# Altium integrated library adafruit.IntLib: 655 symbols (part 1 of 4)
Pins are listed as number, name and electrical type; pins without a type are passive.

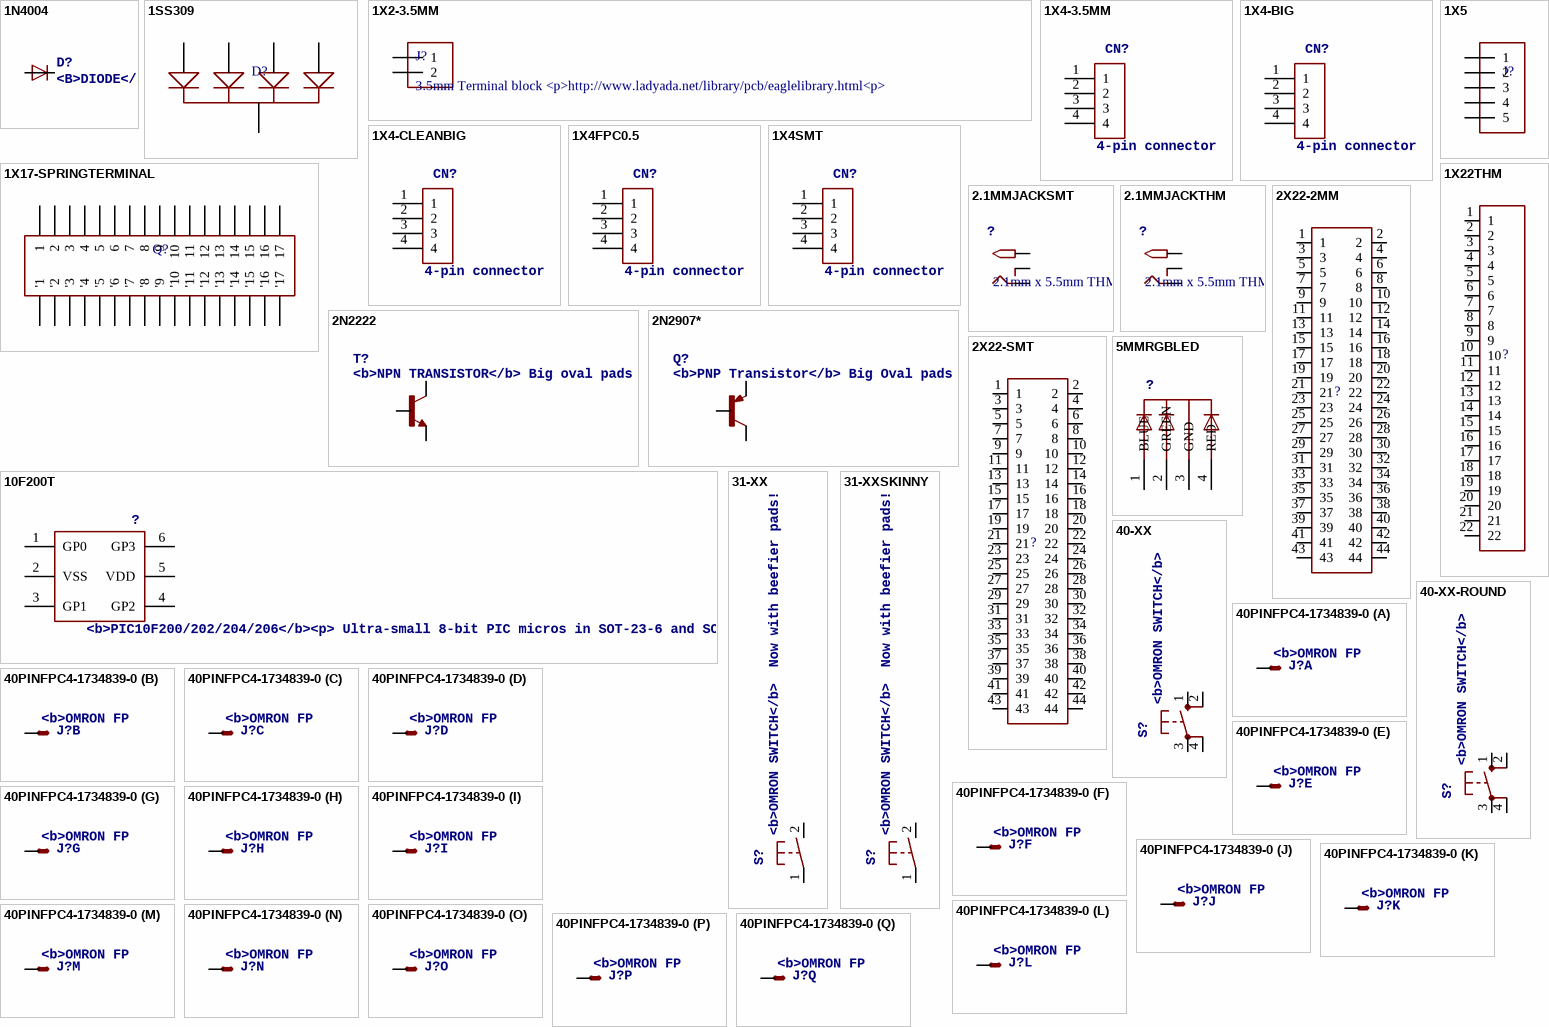
[diagram p0: symbols 1N4004 to 40PINFPC4-1734839-0]

## 1N4004
designator D?, comment <B>DIODE</B><p> / General purpose 1N400x type rectifier / <p>(With bigger pads)</p> / <p>http://www.ladyada.net/library/pcb/eaglelibrary.html<p>
footprint DO41-10
pins: A, C

## 1SS309
designator D?
footprint SOT23-5L
pins: 1 A1, 2 C, 3 A2, 4 A3, 5 A4

## 1X2-3.5MM
designator J?, comment 3.5mm Terminal block / <p>http://www.ladyada.net/library/pcb/eaglelibrary.html<p>
footprint 1X2-3.5MM
pins: 1, 2

## 1X4-3.5MM
designator CN?, comment 4-pin connector
footprint 1X04-3.5MM
pins: 1, 2, 3, 4

## 1X4-BIG
designator CN?, comment 4-pin connector
footprint 1X04-BIG
pins: 1, 2, 3, 4

## 1X4-CLEANBIG
designator CN?, comment 4-pin connector
footprint 1X04-CLEANBIG
pins: 1, 2, 3, 4

## 1X4FPC0.5
designator CN?, comment 4-pin connector
footprint FPC_0.5MM-4
pins: 1, 2, 3, 4

## 1X4SMT
designator CN?, comment 4-pin connector
footprint 1X4-SMT
pins: 1, 2, 3, 4

## 1X5
designator J?
footprint 1X05-3.5MM
pins: 1, 2, 3, 4, 5

## 1X17-SPRINGTERMINAL
designator Q?
footprint SPRINGTERMINAL-17
pins: 1, 1' '1, 2, 2' '2, 3, 3' '3, 4, 4' '4, 5, 5' '5, 6, 6' '6, 7, 7' '7, 8, 8' '8, 9, 9' '9, 10, 10' '10, 11, 11' '11, 12, 12' '12, 13, 13' '13, 14, 14' '14, 15, 15' '15, 16, 16' '16, 17, 17' '17

## 1X22THM
designator ?
footprint 1X22
pins: 1, 2, 3, 4, 5, 6, 7, 8, 9, 10, 11, 12, 13, 14, 15, 16, 17, 18, 19, 20, 21, 22

## 2.1MMJACKSMT
designator ?, comment 2.1mm x 5.5mm THM DC jack with internal switch. Digikey part #PJ-102A, 4UCON part #05537 <br> / 2.1mm x 5.5mm SMT DC jack with internal switch. Digikey part #PJ-002A-SMT, 4UCON part #03267 / <p>By microbuilder.eu & adafruit.com</p>
footprint DCJACK_2MM_SMT
pins: GND RING, GNDBREAK RING_SW, PWR2 TIP

## 2.1MMJACKTHM
designator ?, comment 2.1mm x 5.5mm THM DC jack with internal switch. Digikey part #PJ-102A, 4UCON part #05537 <br> / 2.1mm x 5.5mm SMT DC jack with internal switch. Digikey part #PJ-002A-SMT, 4UCON part #03267 / <p>By microbuilder.eu & adafruit.com</p>
footprint PJ-102A
pins: RING, RING_SW, TIP

## 2N2222
designator T?, comment <b>NPN TRANSISTOR</b> / Big oval pads
footprint TO92-EBC-OVAL
pins: B, C, E

## 2N2907*
designator Q?, comment <b>PNP Transistor</b> / Big Oval pads
footprint TO92-EBC-OVAL
pins: B, C, E

## 2X22-2MM
designator ?
footprint 2X22
pins: 1, 2, 3, 4, 5, 6, 7, 8, 9, 10, 11, 12, 13, 14, 15, 16, 17, 18, 19, 20, 21, 22, 23, 24, 25, 26, 27, 28, 29, 30, 31, 32, 33, 34, 35, 36, 37, 38, 39, 40, 41, 42, 43, 44

## 2X22-SMT
designator ?
footprint 2X22-SMT
pins: 1, 2, 3, 4, 5, 6, 7, 8, 9, 10, 11, 12, 13, 14, 15, 16, 17, 18, 19, 20, 21, 22, 23, 24, 25, 26, 27, 28, 29, 30, 31, 32, 33, 34, 35, 36, 37, 38, 39, 40, 41, 42, 43, 44

## 5MMRGBLED
designator ?
footprint LED5MMRGB
pins: 1 BLUE, 2 GREEN, 3 GND, 4 RED

## 10F200T
designator ?, comment <b>PIC10F200/202/204/206</b><p> / Ultra-small 8-bit PIC micros in SOT-23-6 and SOIC
footprint SOT23-6
pins: 1 GP0, 2 VSS (power), 3 GP1, 4 GP2, 5 VDD (power), 6 GP3

## 31-XX
designator S?, comment <b>OMRON SWITCH</b> / Now with beefier pads!
footprint B3F-31XX
pins: 1 P, 2 S

## 31-XXSKINNY
designator S?, comment <b>OMRON SWITCH</b> / Now with beefier pads!
footprint B3F-31XX-SKINNIER
pins: 1 P, 2 S

## 40-XX
designator S?, comment <b>OMRON SWITCH</b>
MPN: B3F-4000; MF: OMRON COMPONENTS USA; OC_FARNELL: 176434; OC_NEWARK: 36K3105
footprint B3F-40XX
pins: 1 S, 2 S1, 3 P, 4 P1

## 40-XX-ROUND
designator S?, comment <b>OMRON SWITCH</b>
footprint B3F-40XX-ROUND
pins: 1 S, 2 S1, 3 P, 4 P1

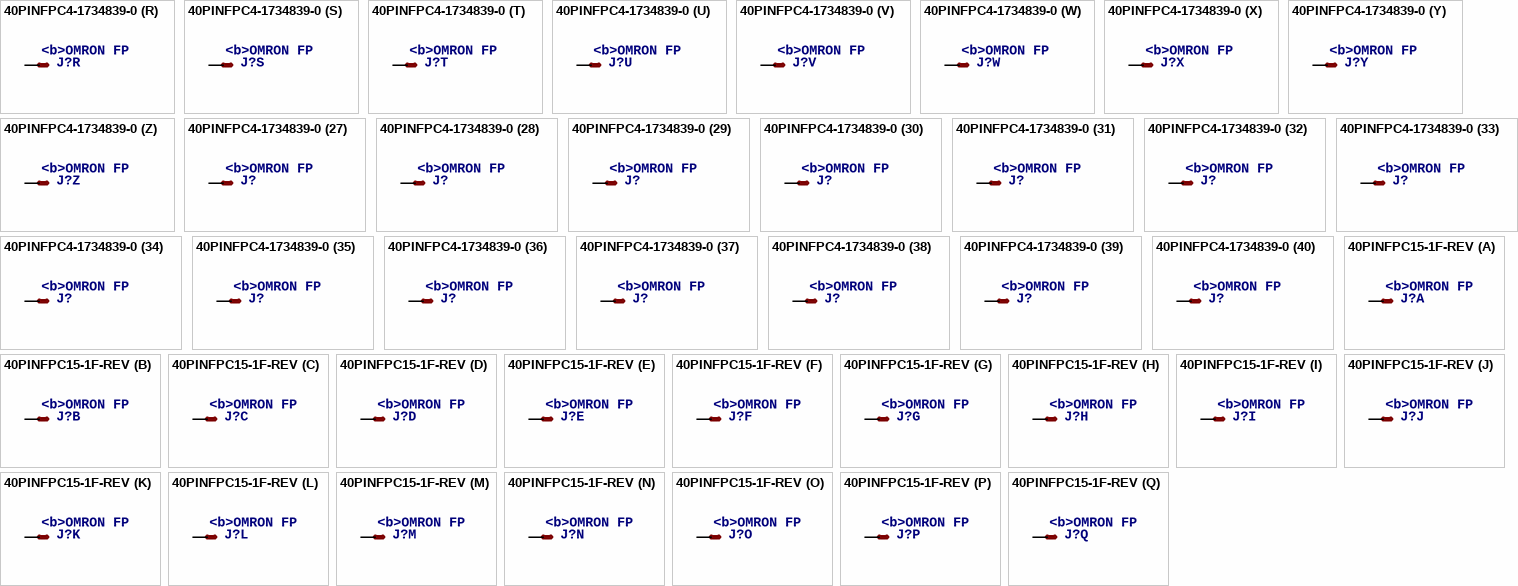
[diagram p1: symbols 40PINFPC4-1734839-0 to 40PINFPC15-1F-REV]

## 40PINFPC4-1734839-0
designator J?, comment <b>OMRON FPC Connector</b><p> / Source : http://www.omron.com/ecb/products/pdf/fpc.pdf / <p> / XF2M-4015-rev is good for connecting up 'PSP' SHARP LQ043 LCDs
footprint 4-1734839-0
part A pins: 1 MSV
part B pins: 2 MS
part C pins: 3 MS
part D pins: 4 MS
part E pins: 5 MS
part F pins: 6 MS
part G pins: 7 MS
part H pins: 8 MS
part I pins: 9 MS
part J pins: 10 MS
part K pins: 11 MS
part L pins: 12 MS
part M pins: 13 MS
part N pins: 14 MS
part O pins: 15 MS
part P pins: 16 MS
part Q pins: 17 MS
part R pins: 18 MS
part S pins: 19 MS
part T pins: 20 MS
part U pins: 21 MS
part V pins: 22 MS
part W pins: 23 MS
part X pins: 24 MS
part Y pins: 25 MS
part Z pins: 26 MS
part 27 pins: 27 MS
part 28 pins: 28 MS
part 29 pins: 29 MS
part 30 pins: 30 MS
part 31 pins: 31 MS
part 32 pins: 32 MS
part 33 pins: 33 MS
part 34 pins: 34 MS
part 35 pins: 35 MS
part 36 pins: 36 MS
part 37 pins: 37 MS
part 38 pins: 38 MS
part 39 pins: 39 MS
part 40 pins: 40 MS

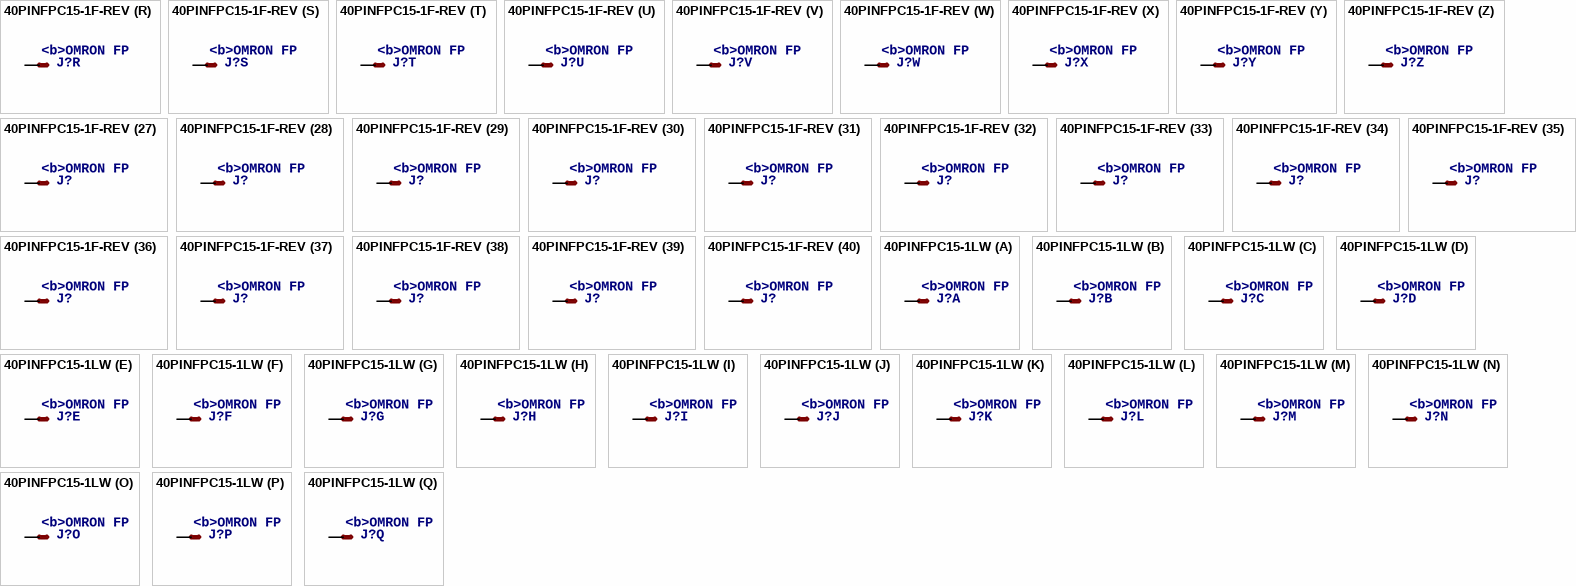
[diagram p2: symbols 40PINFPC15-1F-REV to 40PINFPC15-1LW]

## 40PINFPC15-1F-REV
designator J?, comment <b>OMRON FPC Connector</b><p> / Source : http://www.omron.com/ecb/products/pdf/fpc.pdf / <p> / XF2M-4015-rev is good for connecting up 'PSP' SHARP LQ043 LCDs
footprint XF2M-4015-1F-REVERSE
part A pins: 1 MSV
part B pins: 2 MS
part C pins: 3 MS
part D pins: 4 MS
part E pins: 5 MS
part F pins: 6 MS
part G pins: 7 MS
part H pins: 8 MS
part I pins: 9 MS
part J pins: 10 MS
part K pins: 11 MS
part L pins: 12 MS
part M pins: 13 MS
part N pins: 14 MS
part O pins: 15 MS
part P pins: 16 MS
part Q pins: 17 MS
part R pins: 18 MS
part S pins: 19 MS
part T pins: 20 MS
part U pins: 21 MS
part V pins: 22 MS
part W pins: 23 MS
part X pins: 24 MS
part Y pins: 25 MS
part Z pins: 26 MS
part 27 pins: 27 MS
part 28 pins: 28 MS
part 29 pins: 29 MS
part 30 pins: 30 MS
part 31 pins: 31 MS
part 32 pins: 32 MS
part 33 pins: 33 MS
part 34 pins: 34 MS
part 35 pins: 35 MS
part 36 pins: 36 MS
part 37 pins: 37 MS
part 38 pins: 38 MS
part 39 pins: 39 MS
part 40 pins: 40 MS

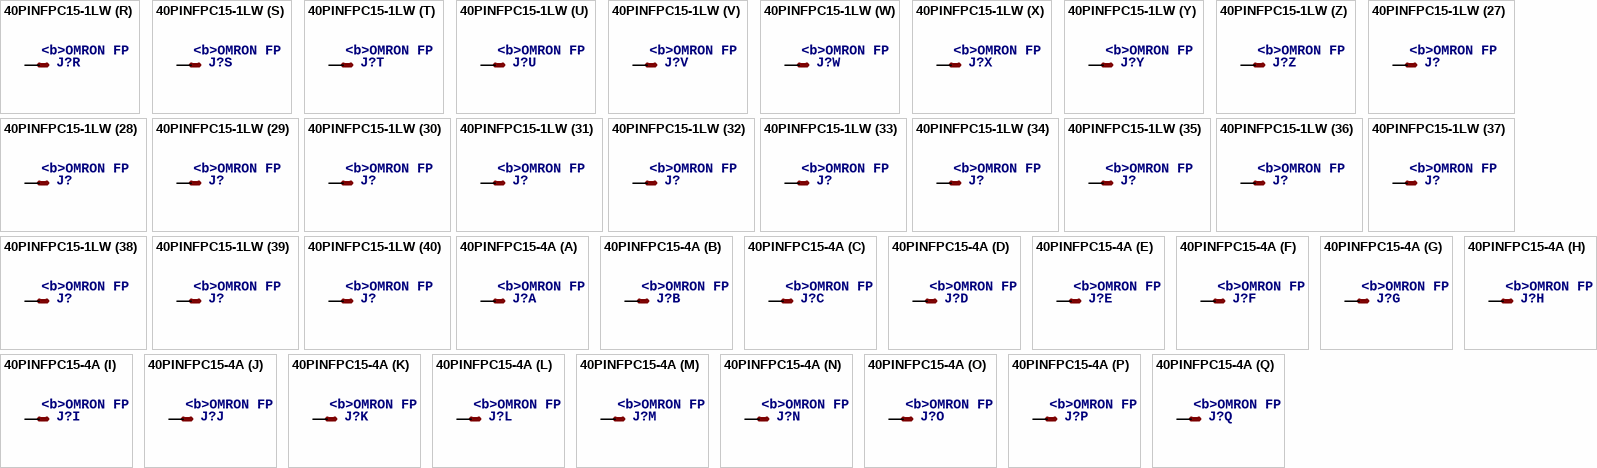
[diagram p3: symbols 40PINFPC15-1LW to 40PINFPC15-4A]

## 40PINFPC15-1LW
designator J?, comment <b>OMRON FPC Connector</b><p> / Source : http://www.omron.com/ecb/products/pdf/fpc.pdf / <p> / XF2M-4015-rev is good for connecting up 'PSP' SHARP LQ043 LCDs
footprint XF2H-4015-1LW
part A pins: 1 MSV
part B pins: 2 MS
part C pins: 3 MS
part D pins: 4 MS
part E pins: 5 MS
part F pins: 6 MS
part G pins: 7 MS
part H pins: 8 MS
part I pins: 9 MS
part J pins: 10 MS
part K pins: 11 MS
part L pins: 12 MS
part M pins: 13 MS
part N pins: 14 MS
part O pins: 15 MS
part P pins: 16 MS
part Q pins: 17 MS
part R pins: 18 MS
part S pins: 19 MS
part T pins: 20 MS
part U pins: 21 MS
part V pins: 22 MS
part W pins: 23 MS
part X pins: 24 MS
part Y pins: 25 MS
part Z pins: 26 MS
part 27 pins: 27 MS
part 28 pins: 28 MS
part 29 pins: 29 MS
part 30 pins: 30 MS
part 31 pins: 31 MS
part 32 pins: 32 MS
part 33 pins: 33 MS
part 34 pins: 34 MS
part 35 pins: 35 MS
part 36 pins: 36 MS
part 37 pins: 37 MS
part 38 pins: 38 MS
part 39 pins: 39 MS
part 40 pins: 40 MS

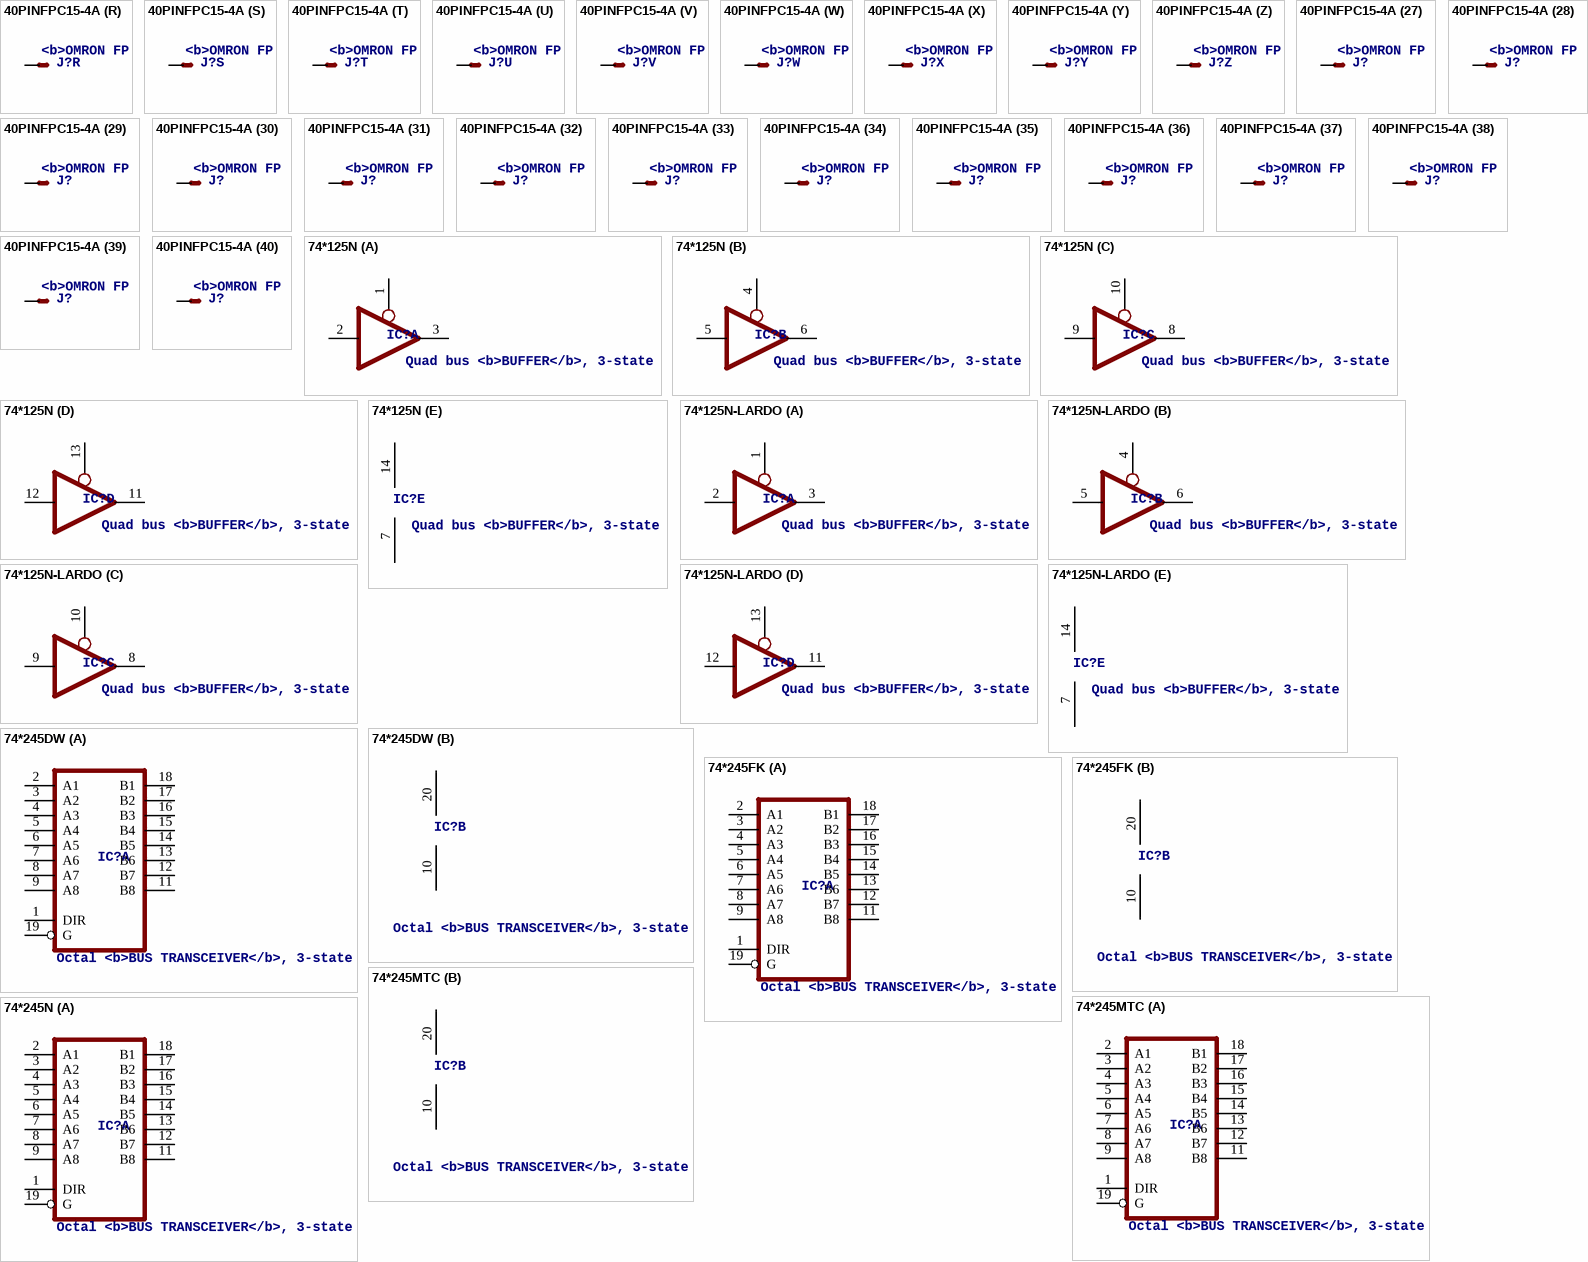
[diagram p4: symbols 40PINFPC15-4A to 74*245N]

## 40PINFPC15-4A
designator J?, comment <b>OMRON FPC Connector</b><p> / Source : http://www.omron.com/ecb/products/pdf/fpc.pdf / <p> / XF2M-4015-rev is good for connecting up 'PSP' SHARP LQ043 LCDs
footprint XF2R-4015-4A
part A pins: 1 MSV
part B pins: 2 MS
part C pins: 3 MS
part D pins: 4 MS
part E pins: 5 MS
part F pins: 6 MS
part G pins: 7 MS
part H pins: 8 MS
part I pins: 9 MS
part J pins: 10 MS
part K pins: 11 MS
part L pins: 12 MS
part M pins: 13 MS
part N pins: 14 MS
part O pins: 15 MS
part P pins: 16 MS
part Q pins: 17 MS
part R pins: 18 MS
part S pins: 19 MS
part T pins: 20 MS
part U pins: 21 MS
part V pins: 22 MS
part W pins: 23 MS
part X pins: 24 MS
part Y pins: 25 MS
part Z pins: 26 MS
part 27 pins: 27 MS
part 28 pins: 28 MS
part 29 pins: 29 MS
part 30 pins: 30 MS
part 31 pins: 31 MS
part 32 pins: 32 MS
part 33 pins: 33 MS
part 34 pins: 34 MS
part 35 pins: 35 MS
part 36 pins: 36 MS
part 37 pins: 37 MS
part 38 pins: 38 MS
part 39 pins: 39 MS
part 40 pins: 40 MS

## 74*125N
designator IC?, comment Quad bus <b>BUFFER</b>, 3-state
footprint DIL14
part A pins: 1 OE, 2 I, 3 O (hiz)
part B pins: 4 OE, 5 I, 6 O (hiz)
part C pins: 8 O (hiz), 9 I, 10 OE
part D pins: 11 O (hiz), 12 I, 13 OE
part E pins: 7 GND (power), 14 VCC (power)

## 74*125N-LARDO
designator IC?, comment Quad bus <b>BUFFER</b>, 3-state
footprint DIL14-LARDO
part A pins: 1 OE, 2 I, 3 O (hiz)
part B pins: 4 OE, 5 I, 6 O (hiz)
part C pins: 8 O (hiz), 9 I, 10 OE
part D pins: 11 O (hiz), 12 I, 13 OE
part E pins: 7 GND (power), 14 VCC (power)

## 74*245DW
designator IC?, comment Octal <b>BUS TRANSCEIVER</b>, 3-state
footprint SO20W
part A pins: 1 DIR, 2 A1, 3 A2, 4 A3, 5 A4, 6 A5, 7 A6, 8 A7, 9 A8, 11 B8, 12 B7, 13 B6, 14 B5, 15 B4, 16 B3, 17 B2, 18 B1, 19 G
part B pins: 10 GND (power), 20 VCC (power)

## 74*245FK
designator IC?, comment Octal <b>BUS TRANSCEIVER</b>, 3-state
footprint LCC20
part A pins: 1 DIR, 2 A1, 3 A2, 4 A3, 5 A4, 6 A5, 7 A6, 8 A7, 9 A8, 11 B8, 12 B7, 13 B6, 14 B5, 15 B4, 16 B3, 17 B2, 18 B1, 19 G
part B pins: 10 GND (power), 20 VCC (power)

## 74*245MTC
designator IC?, comment Octal <b>BUS TRANSCEIVER</b>, 3-state
footprint SSOP20
part A pins: 1 DIR, 2 A1, 3 A2, 4 A3, 5 A4, 6 A5, 7 A6, 8 A7, 9 A8, 11 B8, 12 B7, 13 B6, 14 B5, 15 B4, 16 B3, 17 B2, 18 B1, 19 G
part B pins: 10 GND (power), 20 VCC (power)

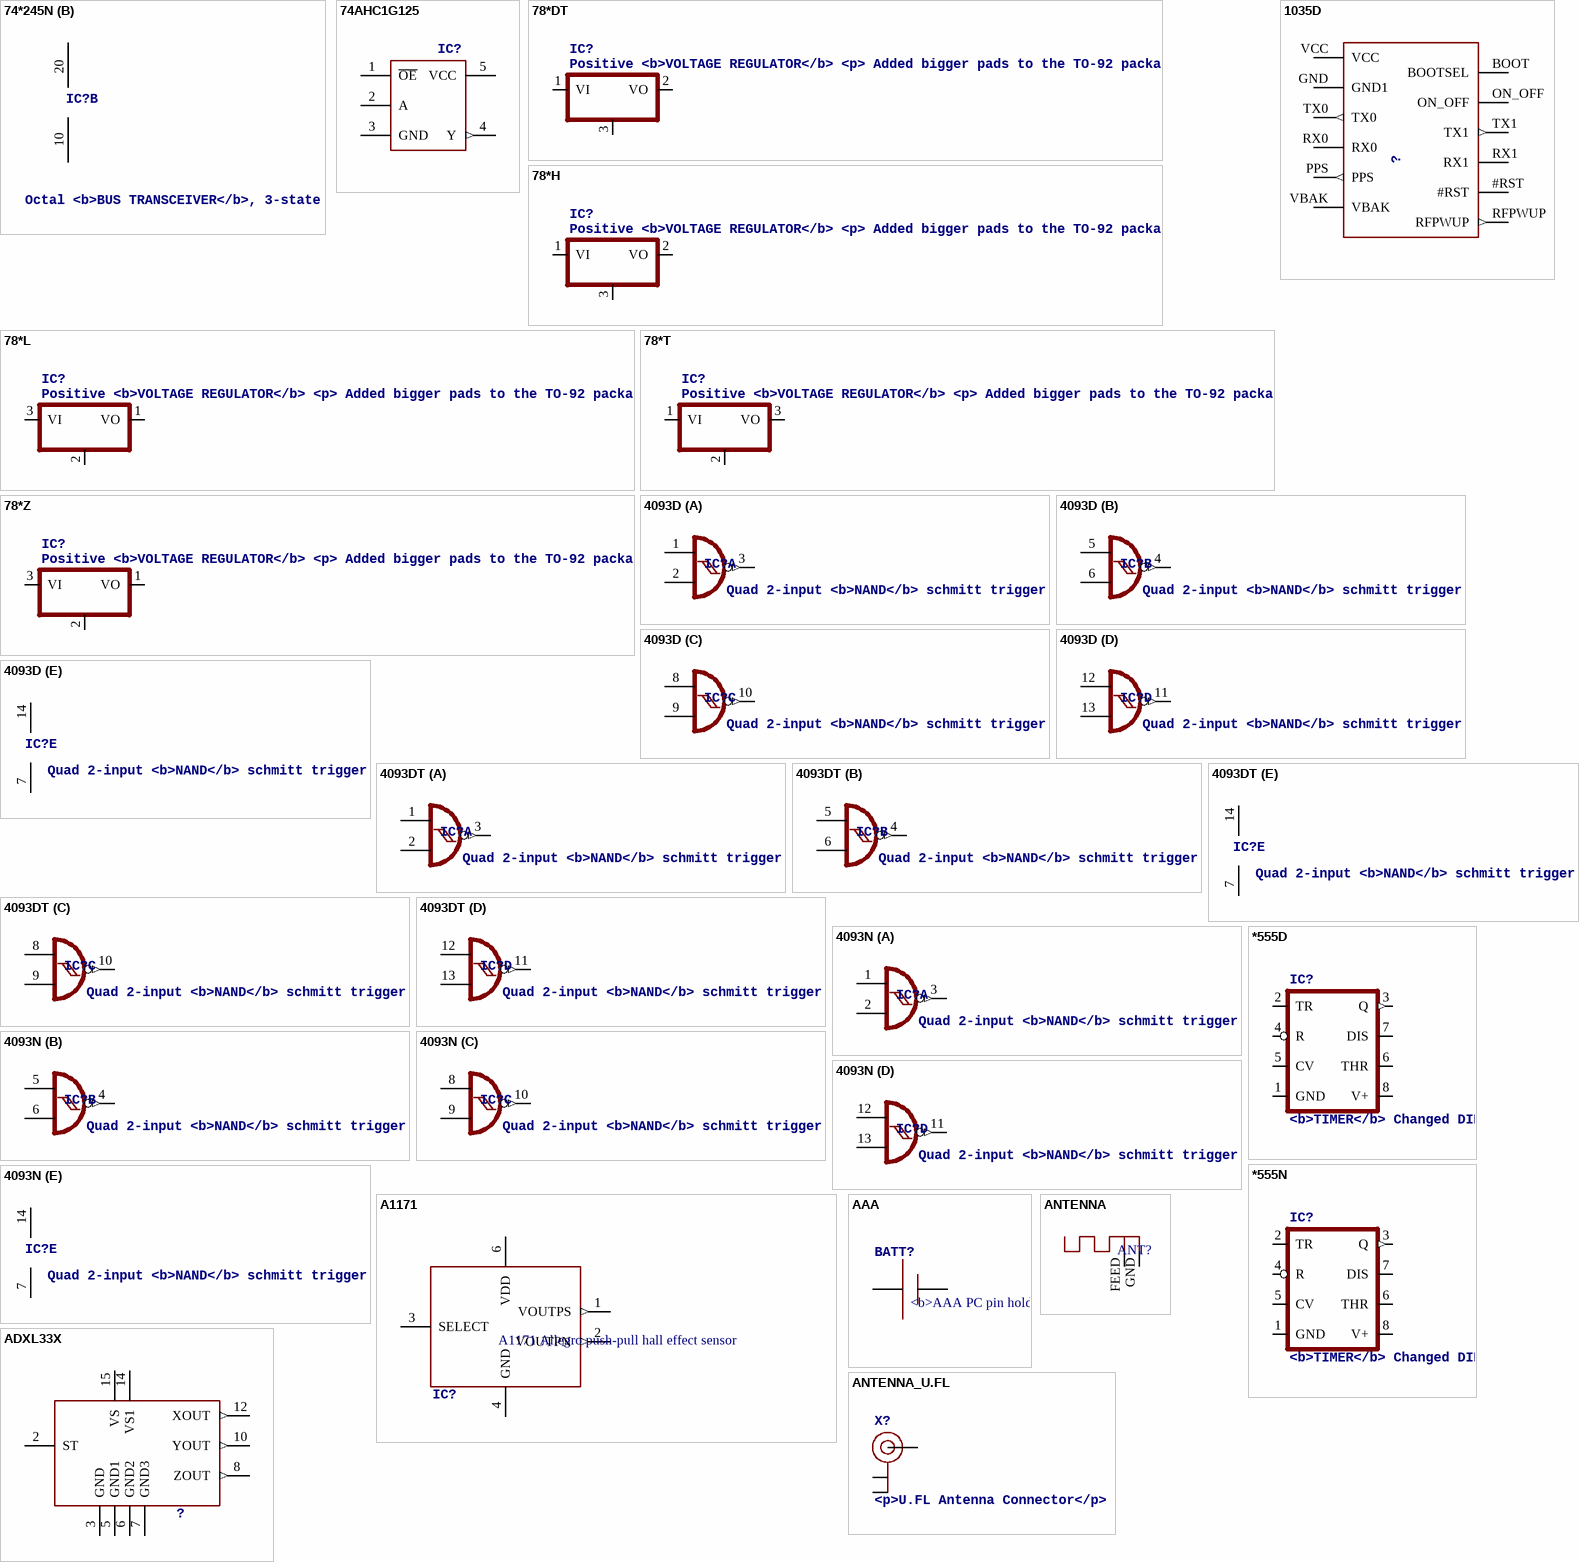
[diagram p5: symbols 74*245N to ANTENNA_U.FL]

## 74*245N
designator IC?, comment Octal <b>BUS TRANSCEIVER</b>, 3-state
footprint DIL20
part A pins: 1 DIR, 2 A1, 3 A2, 4 A3, 5 A4, 6 A5, 7 A6, 8 A7, 9 A8, 11 B8, 12 B7, 13 B6, 14 B5, 15 B4, 16 B3, 17 B2, 18 B1, 19 G
part B pins: 10 GND (power), 20 VCC (power)

## 74AHC1G125
designator IC?
footprint SOT23-5L
pins: 1 ~{OE}, 2 A, 3 GND (power), 4 Y (out), 5 VCC (power)

## 78*DT
designator IC?, comment Positive <b>VOLTAGE REGULATOR</b> / <p> / Added bigger pads to the TO-92 package
footprint TO252
pins: 1 VI, 2 VO, 3 GND

## 78*H
designator IC?, comment Positive <b>VOLTAGE REGULATOR</b> / <p> / Added bigger pads to the TO-92 package
footprint TO39
pins: 1 VI, 2 VO, 3 GND

## 78*L
designator IC?, comment Positive <b>VOLTAGE REGULATOR</b> / <p> / Added bigger pads to the TO-92 package
footprint TO92
pins: 1 VO, 2 GND, 3 VI

## 78*T
designator IC?, comment Positive <b>VOLTAGE REGULATOR</b> / <p> / Added bigger pads to the TO-92 package
footprint TO220H
pins: 1 VI, 2 GND, 3 VO

## 78*Z
designator IC?, comment Positive <b>VOLTAGE REGULATOR</b> / <p> / Added bigger pads to the TO-92 package
footprint TO92
pins: 1 VO, 2 GND, 3 VI

## 1035D
designator ?
footprint 1035D
pins: #RST, BOOT BOOTSEL, GND GND1 (oe), ON_OFF, PPS (out), RFPWUP (out), RX0, RX1, TX0 (out), TX1 (out), VBAK (oe), VCC (oe)

## 4093D
designator IC?, comment Quad 2-input <b>NAND</b> schmitt trigger
footprint SO14
part A pins: 1 I0, 2 I1, 3 O (out)
part B pins: 4 O (out), 5 I0, 6 I1
part C pins: 8 I0, 9 I1, 10 O (out)
part D pins: 11 O (out), 12 I0, 13 I1
part E pins: 7 VSS (power), 14 VDD (power)

## 4093DT
designator IC?, comment Quad 2-input <b>NAND</b> schmitt trigger
footprint MC14093B-TSSOP14
part A pins: 1 I0, 2 I1, 3 O (out)
part B pins: 4 O (out), 5 I0, 6 I1
part C pins: 8 I0, 9 I1, 10 O (out)
part D pins: 11 O (out), 12 I0, 13 I1
part E pins: 7 VSS (power), 14 VDD (power)

## 4093N
designator IC?, comment Quad 2-input <b>NAND</b> schmitt trigger
footprint DIL14
part A pins: 1 I0, 2 I1, 3 O (out)
part B pins: 4 O (out), 5 I0, 6 I1
part C pins: 8 I0, 9 I1, 10 O (out)
part D pins: 11 O (out), 12 I0, 13 I1
part E pins: 7 VSS (power), 14 VDD (power)

## *555D
designator IC?, comment <b>TIMER</b> / Changed DIP package to have round (not oval) pin pads / <p>http://www.ladyada.net/library/pcb/eaglelibrary.html<p>
footprint SO08
pins: 1 GND (power), 2 TR, 3 Q (out), 4 R, 5 CV, 6 THR, 7 DIS, 8 V+ (power)

## *555N
designator IC?, comment <b>TIMER</b> / Changed DIP package to have round (not oval) pin pads / <p>http://www.ladyada.net/library/pcb/eaglelibrary.html<p>
footprint DIL08-ROUND
pins: 1 GND (power), 2 TR, 3 Q (out), 4 R, 5 CV, 6 THR, 7 DIS, 8 V+ (power)

## A1171
designator IC?, comment A1171 Allegro push-pull hall effect sensor
footprint DFN-6
pins: 1 VOUTPS (out), 2 VOUTPN (out), 3 SELECT, 4 GND (power), 6 VDD (power)

## AAA
designator BATT?, comment <b>AAA PC pin holder</b> / <p> / Mouser part #12BH412 - but pretty much any 1x AAA battery holder should be the same / <p>http://www.ladyada.net/library/pcb/eaglelibrary.html</p>
footprint 12BH412
pins: +, -

## ADXL33X
designator ?
footprint 16LCSP
pins: 2 ST, 3 GND (oe), 5 GND1 (oe), 6 GND2 (oe), 7 GND3 (oe), 8 ZOUT (out), 10 YOUT (out), 12 XOUT (out), 14 VS1 (oe), 15 VS (oe)

## ANTENNA
designator ANT?
footprint RN-ANT
pins: FEED, GND

## ANTENNA_U.FL
designator X?, comment <p>U.FL Antenna Connector</p>
footprint U.FL
pins: 1 GND, 2 GND, 3 SIGNAL

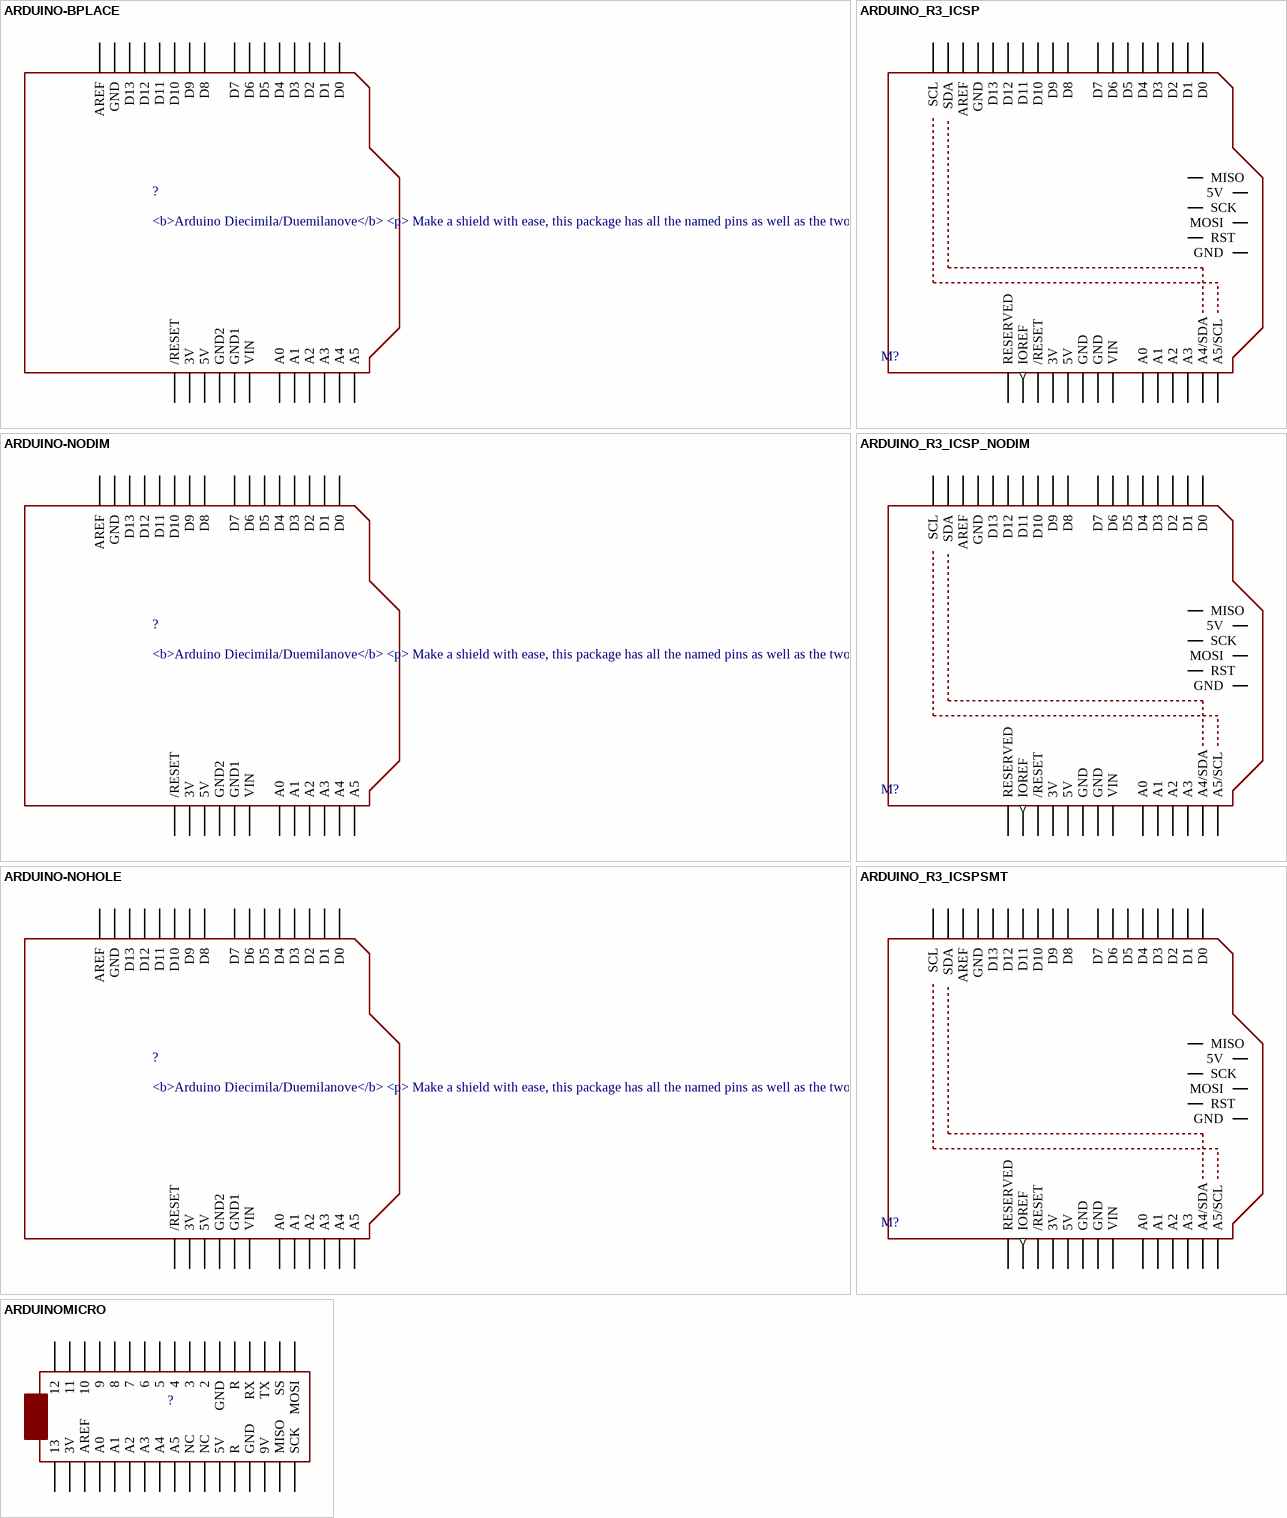
[diagram p6: symbols ARDUINO-BPLACE to ARDUINOMICRO]

## ARDUINO-BPLACE
designator ?, comment <b>Arduino Diecimila/Duemilanove</b> / <p> / Make a shield with ease, this package has all the named pins as well as the two mounting drill holes and an outline of the USB and DC power connector. The outline is on the DIMENSION layer, so if your board house uses it they will cut the outline to match. / <p> / http://www.ladyada.net/library/pcb/eaglelibrary.html
footprint ARDUINO-BPLACE
pins: 3V (power), 5V (power), A0, A1, A2, A3, A4, A5, AREF, D0, D1, D2, D3, D4, D5, D6, D7, D8, D9, D10, D11, D12, D13, GND (power), GND1 (power), GND2 (power), RESET /RESET, VIN (power)

## ARDUINO-NODIM
designator ?, comment <b>Arduino Diecimila/Duemilanove</b> / <p> / Make a shield with ease, this package has all the named pins as well as the two mounting drill holes and an outline of the USB and DC power connector. The outline is on the DIMENSION layer, so if your board house uses it they will cut the outline to match. / <p> / http://www.ladyada.net/library/pcb/eaglelibrary.html
footprint ARDUINO-NODIM
pins: 3V (power), 5V (power), A0, A1, A2, A3, A4, A5, AREF, D0, D1, D2, D3, D4, D5, D6, D7, D8, D9, D10, D11, D12, D13, GND (power), GND1 (power), GND2 (power), RESET /RESET, VIN (power)

## ARDUINO-NOHOLE
designator ?, comment <b>Arduino Diecimila/Duemilanove</b> / <p> / Make a shield with ease, this package has all the named pins as well as the two mounting drill holes and an outline of the USB and DC power connector. The outline is on the DIMENSION layer, so if your board house uses it they will cut the outline to match. / <p> / http://www.ladyada.net/library/pcb/eaglelibrary.html
footprint ARDUINO-NOHOLE
pins: 3V (power), 5V (power), A0, A1, A2, A3, A4, A5, AREF, D0, D1, D2, D3, D4, D5, D6, D7, D8, D9, D10, D11, D12, D13, GND (power), GND1 (power), GND2 (power), RESET /RESET, VIN (power)

## ARDUINO_R3_ICSP
designator M?
footprint ARDUINOR3_ICSP
pins: 3V (power), 5V (power), 5V_ICSP 5V, A0, A1, A2, A3, A4 A4/SDA, A5 A5/SCL, AREF, D0, D1, D2, D3, D4, D5, D6, D7, D8, D9, D10, D11, D12, D13, GND (power), GND@1 GND (power), GND@2 GND, GND@3 GND (power), IOREF (out), MISO, MOSI, RESERVED, RESET /RESET, RESET_ICSP RST, SCK, SCL, SDA, VIN (power)

## ARDUINO_R3_ICSP_NODIM
designator M?
footprint ARDUINOR3_ICSP_NODIM
pins: 3V (power), 5V (power), 5V_ICSP 5V, A0, A1, A2, A3, A4 A4/SDA, A5 A5/SCL, AREF, D0, D1, D2, D3, D4, D5, D6, D7, D8, D9, D10, D11, D12, D13, GND (power), GND@1 GND (power), GND@2 GND, GND@3 GND (power), IOREF (out), MISO, MOSI, RESERVED, RESET /RESET, RESET_ICSP RST, SCK, SCL, SDA, VIN (power)

## ARDUINO_R3_ICSPSMT
designator M?
footprint ARDUINOR3_ICSP_SMT
pins: 3V (power), 5V (power), 5V_ICSP 5V, A0, A1, A2, A3, A4 A4/SDA, A5 A5/SCL, AREF, D0, D1, D2, D3, D4, D5, D6, D7, D8, D9, D10, D11, D12, D13, GND (power), GND@1 GND (power), GND@2 GND (power), GND@3 GND, IOREF (out), MISO, MOSI, RESERVED, RESET /RESET, RESET_ICSP RST, SCK, SCL, SDA, VIN (power)

## ARDUINOMICRO
designator ?
footprint ARDUINOMICRO
pins: P$1 12, P$2 11, P$3 10, P$4 9, P$5 8, P$6 7, P$7 6, P$8 5, P$9 4, P$10 3, P$11 2, P$12 GND, P$13 R, P$14 RX, P$15 TX, P$16 SS, P$17 MOSI, P$18 SCK, P$19 MISO, P$20 9V, P$21 GND, P$22 R, P$23 5V, P$24 NC, P$25 NC, P$26 A5, P$27 A4, P$28 A3, P$29 A2, P$30 A1, P$31 A0, P$32 AREF, P$33 3V, P$34 13

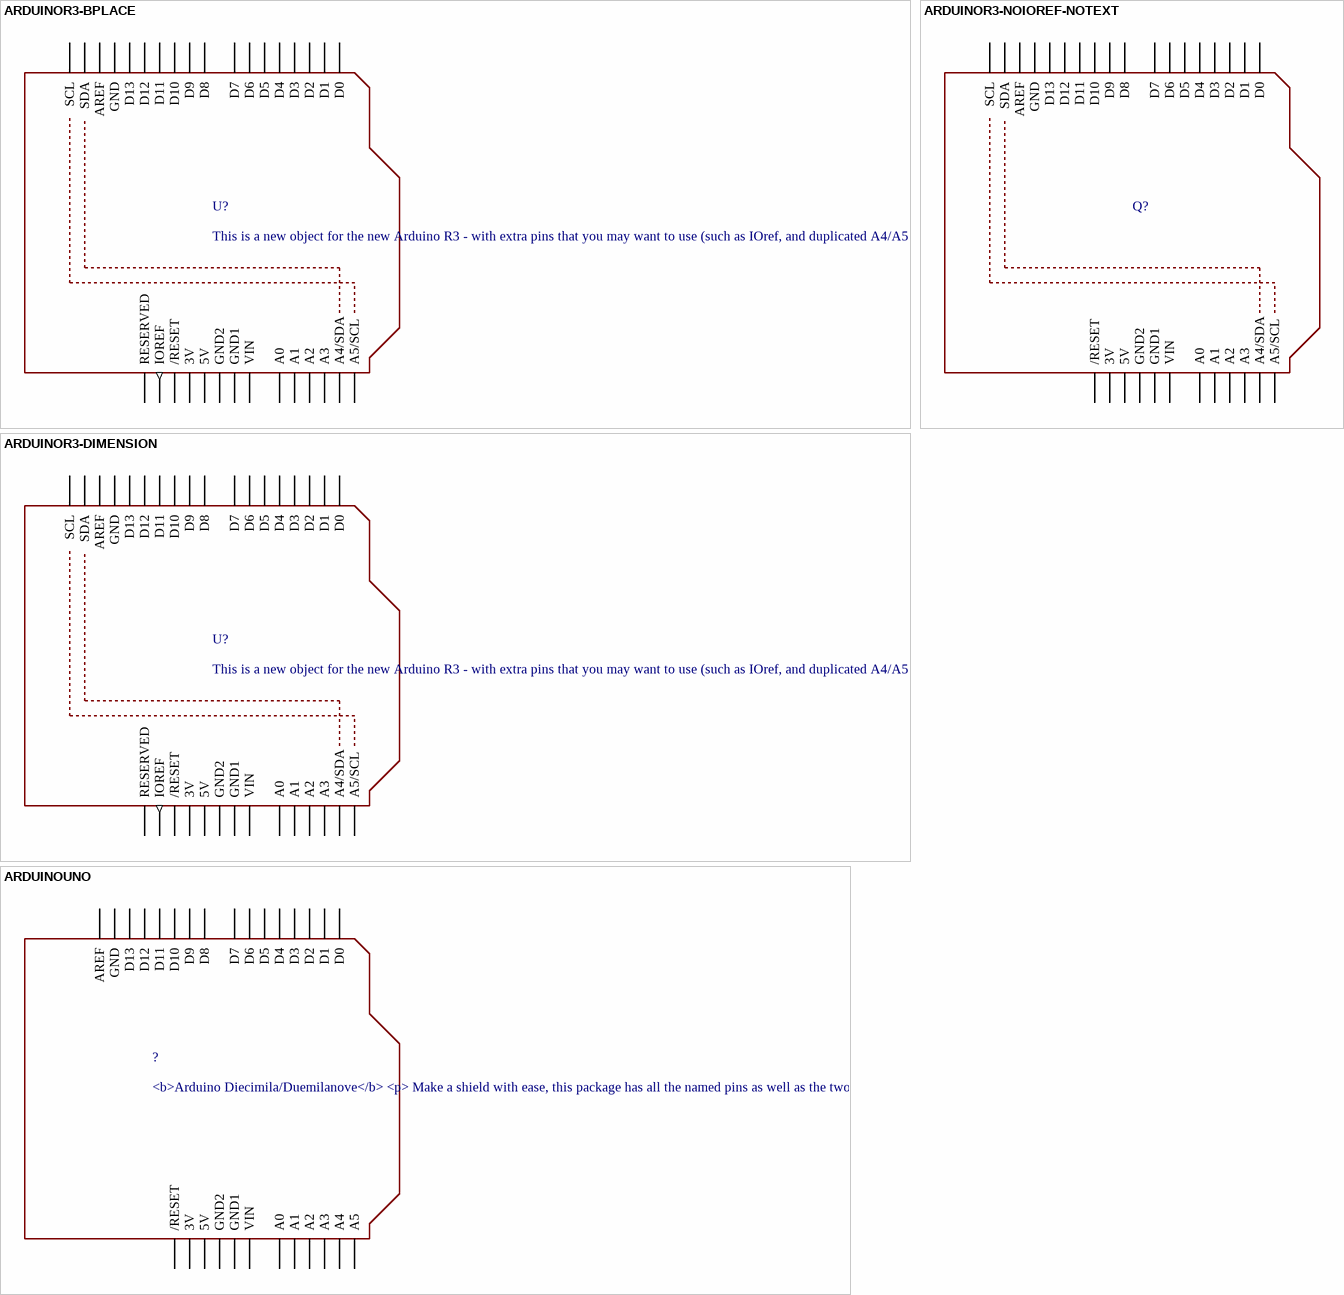
[diagram p7: symbols ARDUINOR3-BPLACE to ARDUINOUNO]

## ARDUINOR3-BPLACE
designator U?, comment This is a new object for the new Arduino R3 - with extra pins that you may want to use (such as IOref, and duplicated A4/A5
footprint ARDUINOR3-BPLACE
pins: 3V (power), 5V (power), A0, A1, A2, A3, A4 A4/SDA, A5 A5/SCL, AREF, D0, D1, D2, D3, D4, D5, D6, D7, D8, D9, D10, D11, D12, D13, GND (power), GND1 (power), GND2 (power), IOREF (out), RESERVED, RESET /RESET, SCL, SDA, VIN (power)

## ARDUINOR3-DIMENSION
designator U?, comment This is a new object for the new Arduino R3 - with extra pins that you may want to use (such as IOref, and duplicated A4/A5
footprint ARDUINOR3
pins: 3V (power), 5V (power), A0, A1, A2, A3, A4 A4/SDA, A5 A5/SCL, AREF, D0, D1, D2, D3, D4, D5, D6, D7, D8, D9, D10, D11, D12, D13, GND (power), GND1 (power), GND2 (power), IOREF (out), RESERVED, RESET /RESET, SCL, SDA, VIN (power)

## ARDUINOR3-NOIOREF-NOTEXT
designator Q?
footprint ARDUINOR3-NOTEXT-NOIOREF
pins: 3V (power), 5V (power), A0, A1, A2, A3, A4 A4/SDA, A5 A5/SCL, AREF, D0, D1, D2, D3, D4, D5, D6, D7, D8, D9, D10, D11, D12, D13, GND (power), GND1 (power), GND2 (power), RESET /RESET, SCL, SDA, VIN (power)

## ARDUINOUNO
designator ?, comment <b>Arduino Diecimila/Duemilanove</b> / <p> / Make a shield with ease, this package has all the named pins as well as the two mounting drill holes and an outline of the USB and DC power connector. The outline is on the DIMENSION layer, so if your board house uses it they will cut the outline to match. / <p> / http://www.ladyada.net/library/pcb/eaglelibrary.html
footprint ARDUINO
pins: 3V (power), 5V (power), A0, A1, A2, A3, A4, A5, AREF, D0, D1, D2, D3, D4, D5, D6, D7, D8, D9, D10, D11, D12, D13, GND (power), GND1 (power), GND2 (power), RESET /RESET, VIN (power)

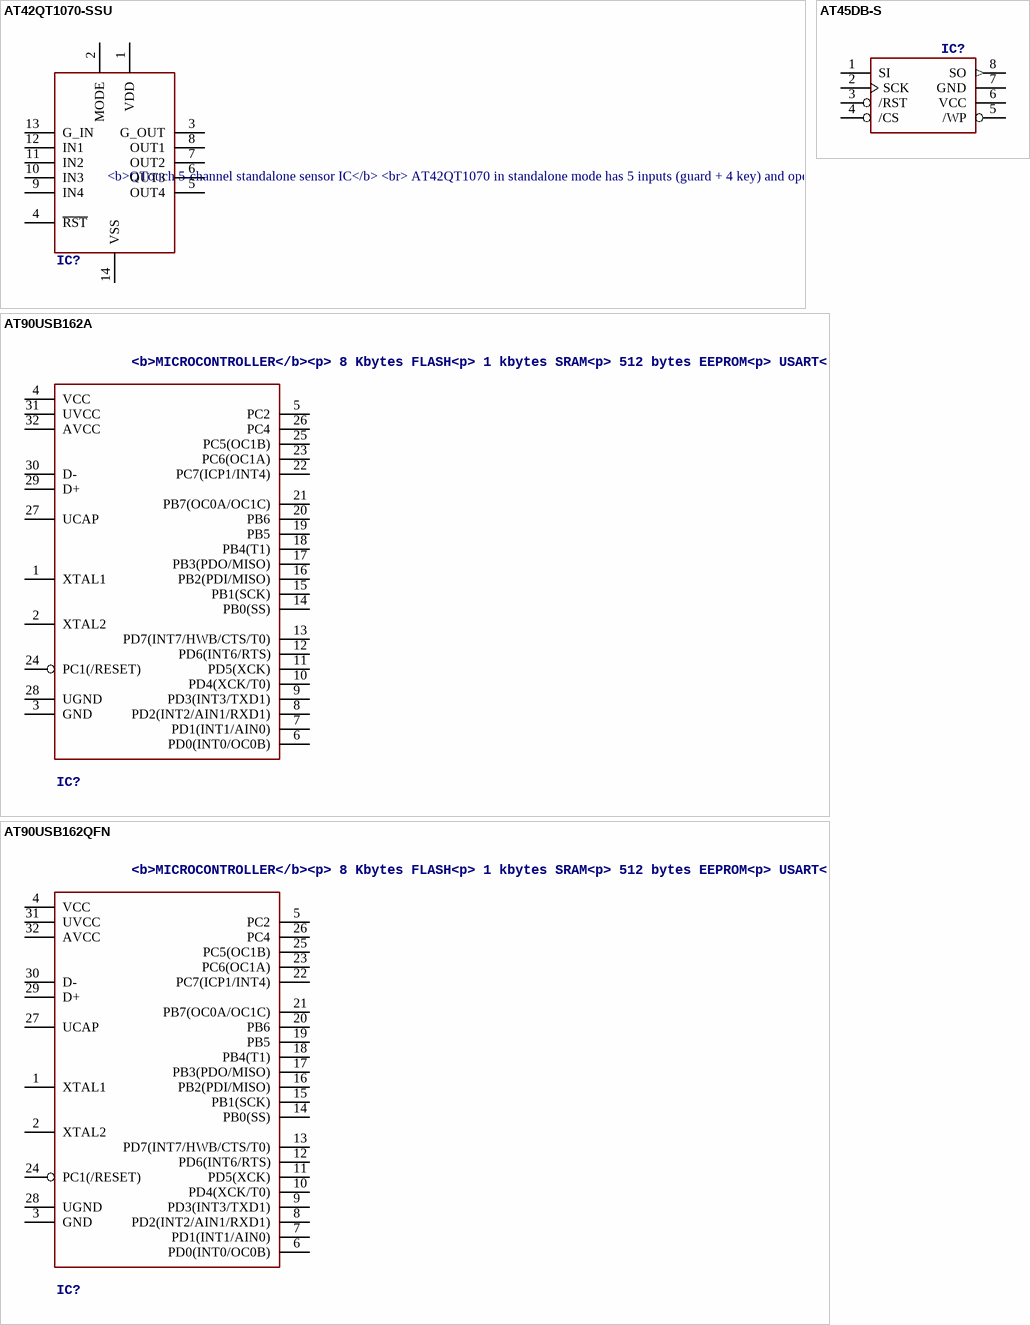
[diagram p8: symbols AT42QT1070-SSU to AT90USB162QFN]

## AT42QT1070-SSU
designator IC?, comment <b>QTouch 5-channel standalone sensor IC</b> / <br> / AT42QT1070 in standalone mode has 5 inputs (guard + 4 key) and open drain outputs. 1.8V-5.5V power.
footprint SO14
pins: 1 VDD (power), 2 MODE, 3 G_OUT (oc), 4 ~{RST}, 5 OUT4 (oc), 6 OUT3 (oc), 7 OUT2 (oc), 8 OUT1 (oc), 9 IN4, 10 IN3, 11 IN2, 12 IN1, 13 G_IN, 14 VSS (power)

## AT45DB-S
designator IC?
footprint SOIC8_208MIL
pins: 1 SI, 2 SCK, 3 /RST, 4 /CS, 5 /WP, 6 VCC (power), 7 GND (power), 8 SO (out)

## AT90USB162A
designator IC?, comment <b>MICROCONTROLLER</b><p> / 8 Kbytes FLASH<p> / 1 kbytes SRAM<p> / 512 bytes EEPROM<p> / USART<p> / 6-channel 10 bit ADC<p> / 2-channel 8 bit ADC
footprint TQFP32-08
pins: 1 XTAL1, 2 XTAL2, 3 GND, 4 VCC, 5 PC2, 6 PD0(INT0/OC0B), 7 PD1(INT1/AIN0), 8 PD2(INT2/AIN1/RXD1), 9 PD3(INT3/TXD1), 10 PD4(XCK/T0), 11 PD5(XCK), 12 PD6(INT6/RTS), 13 PD7(INT7/HWB/CTS/T0), 14 PB0(SS), 15 PB1(SCK), 16 PB2(PDI/MISO), 17 PB3(PDO/MISO), 18 PB4(T1), 19 PB5, 20 PB6, 21 PB7(OC0A/OC1C), 22 PC7(ICP1/INT4), 23 PC6(OC1A), 24 PC1(/RESET), 25 PC5(OC1B), 26 PC4, 27 UCAP, 28 UGND, 29 D+, 30 D-, 31 UVCC, 32 AVCC

## AT90USB162QFN
designator IC?, comment <b>MICROCONTROLLER</b><p> / 8 Kbytes FLASH<p> / 1 kbytes SRAM<p> / 512 bytes EEPROM<p> / USART<p> / 6-channel 10 bit ADC<p> / 2-channel 8 bit ADC
footprint MLF32
pins: 1 XTAL1, 2 XTAL2, 3 GND, 4 VCC, 5 PC2, 6 PD0(INT0/OC0B), 7 PD1(INT1/AIN0), 8 PD2(INT2/AIN1/RXD1), 9 PD3(INT3/TXD1), 10 PD4(XCK/T0), 11 PD5(XCK), 12 PD6(INT6/RTS), 13 PD7(INT7/HWB/CTS/T0), 14 PB0(SS), 15 PB1(SCK), 16 PB2(PDI/MISO), 17 PB3(PDO/MISO), 18 PB4(T1), 19 PB5, 20 PB6, 21 PB7(OC0A/OC1C), 22 PC7(ICP1/INT4), 23 PC6(OC1A), 24 PC1(/RESET), 25 PC5(OC1B), 26 PC4, 27 UCAP, 28 UGND, 29 D+, 30 D-, 31 UVCC, 32 AVCC

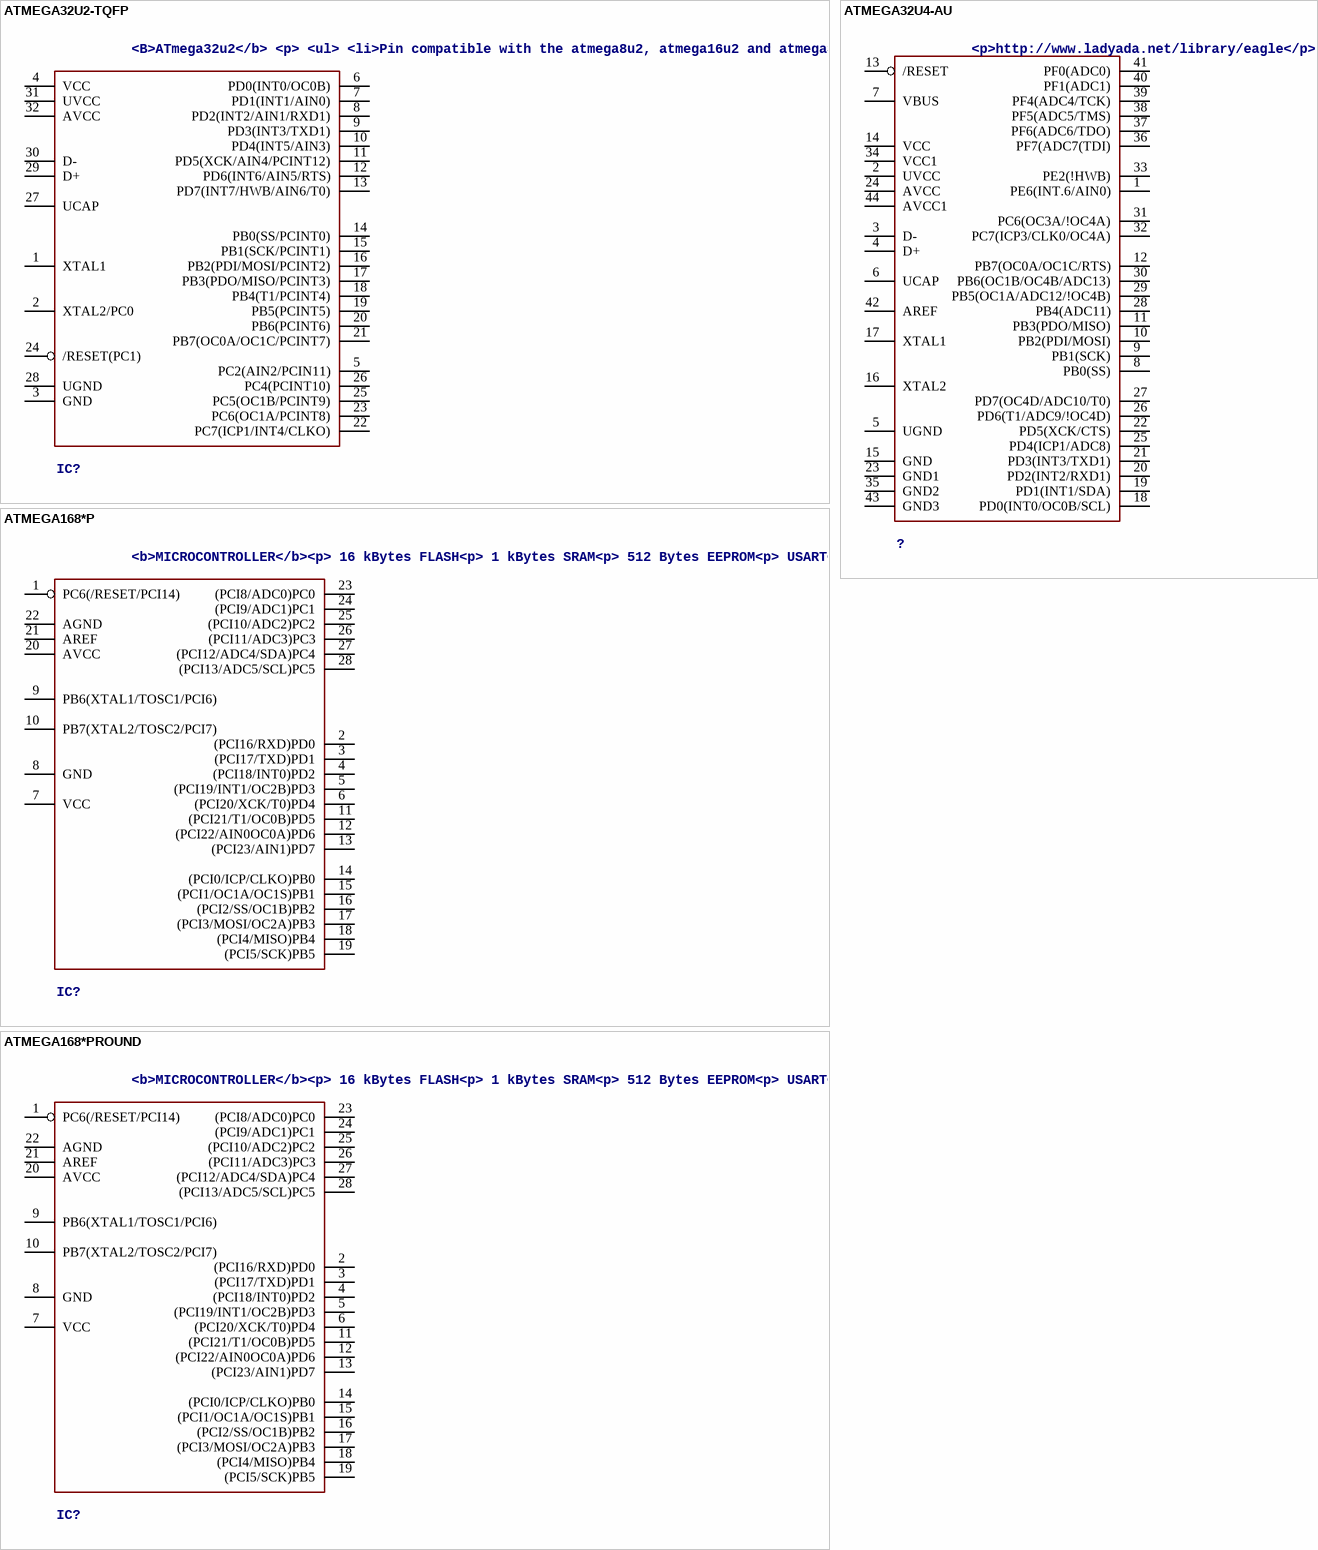
[diagram p9: symbols ATMEGA32U2-TQFP to ATMEGA168*PROUND]

## ATMEGA32U2-TQFP
designator IC?, comment <B>ATmega32u2</b> / <p> / <ul> / <li>Pin compatible with the atmega8u2, atmega16u2 and atmega32u2</li> / <li>8, 16 or 32 K flash, 1K RAM, 512b EEPROM</li> / <li>8 bit and 16 bit timer (5 PWM total)</li> / <li>UART, SPI (no I2C!)</li> / <li>USB with 4 endpoints, LUFA compatible</li> / <li>22 I/O lines, analog comparator (no ADC!)</li> / <li>Comes with DFU bootloader burned in!</li> / </ul>
footprint TQFP32-08
pins: 1 XTAL1, 2 XTAL2/PC0, 3 GND, 4 VCC, 5 PC2(AIN2/PCIN11), 6 PD0(INT0/OC0B), 7 PD1(INT1/AIN0), 8 PD2(INT2/AIN1/RXD1), 9 PD3(INT3/TXD1), 10 PD4(INT5/AIN3), 11 PD5(XCK/AIN4/PCINT12), 12 PD6(INT6/AIN5/RTS), 13 PD7(INT7/HWB/AIN6/T0), 14 PB0(SS/PCINT0), 15 PB1(SCK/PCINT1), 16 PB2(PDI/MOSI/PCINT2), 17 PB3(PDO/MISO/PCINT3), 18 PB4(T1/PCINT4), 19 PB5(PCINT5), 20 PB6(PCINT6), 21 PB7(OC0A/OC1C/PCINT7), 22 PC7(ICP1/INT4/CLKO), 23 PC6(OC1A/PCINT8), 24 /RESET(PC1), 25 PC5(OC1B/PCINT9), 26 PC4(PCINT10), 27 UCAP, 28 UGND, 29 D+, 30 D-, 31 UVCC, 32 AVCC

## ATMEGA32U4-AU
designator ?, comment <p>http://www.ladyada.net/library/eagle</p>
footprint TQFP44
pins: 1 PE6(INT.6/AIN0), 2 UVCC, 3 D-, 4 D+, 5 UGND, 6 UCAP, 7 VBUS, 8 PB0(SS), 9 PB1(SCK), 10 PB2(PDI/MOSI), 11 PB3(PDO/MISO), 12 PB7(OC0A/OC1C/RTS), 13 /RESET, 14 VCC, 15 GND, 16 XTAL2, 17 XTAL1, 18 PD0(INT0/OC0B/SCL), 19 PD1(INT1/SDA), 20 PD2(INT2/RXD1), 21 PD3(INT3/TXD1), 22 PD5(XCK/CTS), 23 GND1, 24 AVCC, 25 PD4(ICP1/ADC8), 26 PD6(T1/ADC9/!OC4D), 27 PD7(OC4D/ADC10/T0), 28 PB4(ADC11), 29 PB5(OC1A/ADC12/!OC4B), 30 PB6(OC1B/OC4B/ADC13), 31 PC6(OC3A/!OC4A), 32 PC7(ICP3/CLK0/OC4A), 33 PE2(!HWB), 34 VCC1, 35 GND2, 36 PF7(ADC7(TDI), 37 PF6(ADC6/TDO), 38 PF5(ADC5/TMS), 39 PF4(ADC4/TCK), 40 PF1(ADC1), 41 PF0(ADC0), 42 AREF, 43 GND3, 44 AVCC1

## ATMEGA168*P
designator IC?, comment <b>MICROCONTROLLER</b><p> / 16 kBytes FLASH<p> / 1 kBytes SRAM<p> / 512 Bytes EEPROM<p> / USART<p> / 8-channel 10 bit ADC<p>
footprint DIL28-3
pins: 1 PC6(/RESET/PCI14), 2 (PCI16/RXD)PD0, 3 (PCI17/TXD)PD1, 4 (PCI18/INT0)PD2, 5 (PCI19/INT1/OC2B)PD3, 6 (PCI20/XCK/T0)PD4, 7 VCC, 8 GND, 9 PB6(XTAL1/TOSC1/PCI6), 10 PB7(XTAL2/TOSC2/PCI7), 11 (PCI21/T1/OC0B)PD5, 12 (PCI22/AIN0OC0A)PD6, 13 (PCI23/AIN1)PD7, 14 (PCI0/ICP/CLKO)PB0, 15 (PCI1/OC1A/OC1S)PB1, 16 (PCI2/SS/OC1B)PB2, 17 (PCI3/MOSI/OC2A)PB3, 18 (PCI4/MISO)PB4, 19 (PCI5/SCK)PB5, 20 AVCC, 21 AREF, 22 AGND, 23 (PCI8/ADC0)PC0, 24 (PCI9/ADC1)PC1, 25 (PCI10/ADC2)PC2, 26 (PCI11/ADC3)PC3, 27 (PCI12/ADC4/SDA)PC4, 28 (PCI13/ADC5/SCL)PC5

## ATMEGA168*PROUND
designator IC?, comment <b>MICROCONTROLLER</b><p> / 16 kBytes FLASH<p> / 1 kBytes SRAM<p> / 512 Bytes EEPROM<p> / USART<p> / 8-channel 10 bit ADC<p>
footprint DIL28-3-ROUND
pins: 1 PC6(/RESET/PCI14), 2 (PCI16/RXD)PD0, 3 (PCI17/TXD)PD1, 4 (PCI18/INT0)PD2, 5 (PCI19/INT1/OC2B)PD3, 6 (PCI20/XCK/T0)PD4, 7 VCC, 8 GND, 9 PB6(XTAL1/TOSC1/PCI6), 10 PB7(XTAL2/TOSC2/PCI7), 11 (PCI21/T1/OC0B)PD5, 12 (PCI22/AIN0OC0A)PD6, 13 (PCI23/AIN1)PD7, 14 (PCI0/ICP/CLKO)PB0, 15 (PCI1/OC1A/OC1S)PB1, 16 (PCI2/SS/OC1B)PB2, 17 (PCI3/MOSI/OC2A)PB3, 18 (PCI4/MISO)PB4, 19 (PCI5/SCK)PB5, 20 AVCC, 21 AREF, 22 AGND, 23 (PCI8/ADC0)PC0, 24 (PCI9/ADC1)PC1, 25 (PCI10/ADC2)PC2, 26 (PCI11/ADC3)PC3, 27 (PCI12/ADC4/SDA)PC4, 28 (PCI13/ADC5/SCL)PC5

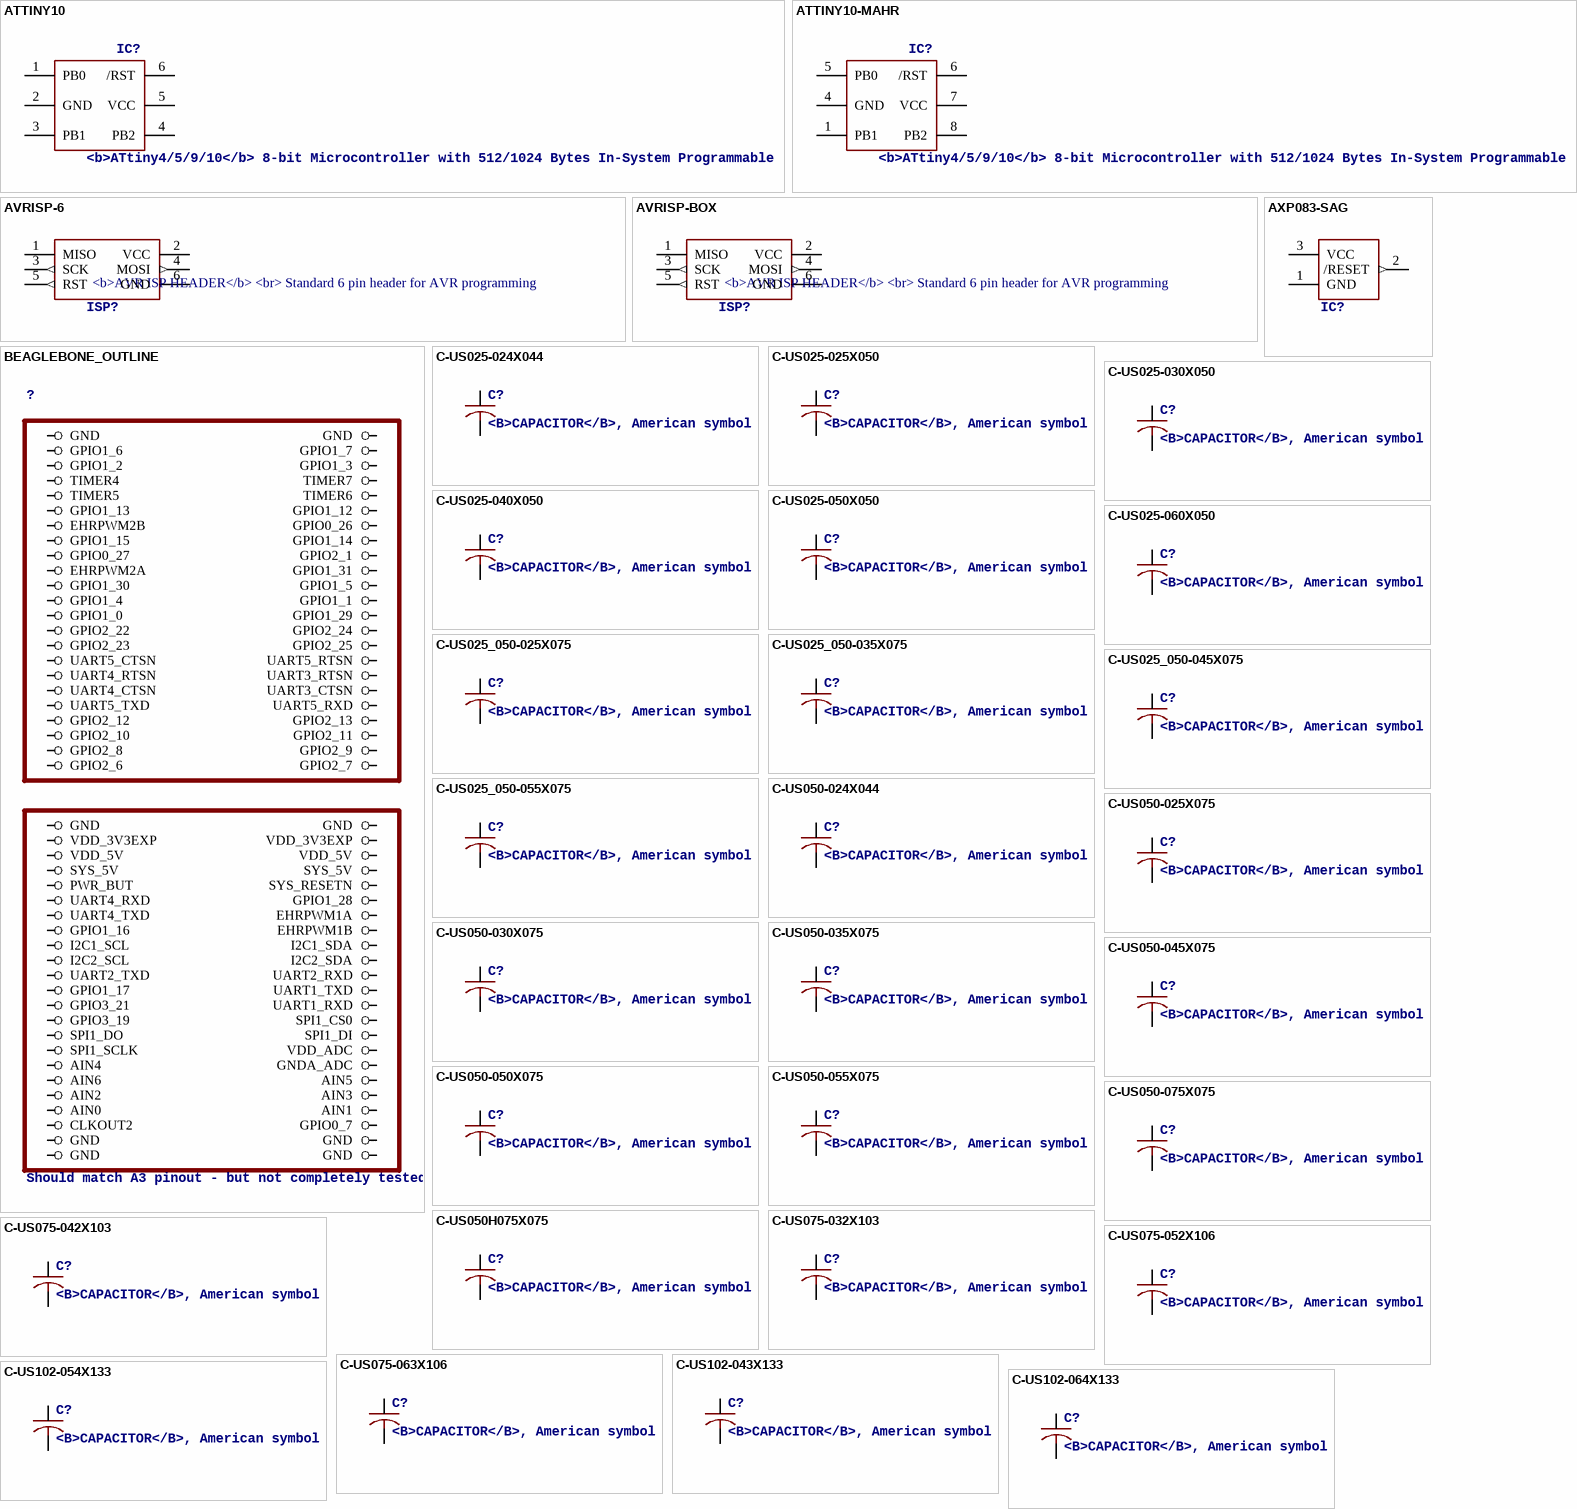
[diagram p10: symbols ATTINY10 to C-US102-064X133]

## ATTINY10
designator IC?, comment <b>ATtiny4/5/9/10</b> / 8-bit Microcontroller with 512/1024 Bytes In-System Programmable Flash
footprint SOT23-6
pins: 1 PB0, 2 GND (power), 3 PB1, 4 PB2, 5 VCC (power), 6 /RST

## ATTINY10-MAHR
designator IC?, comment <b>ATtiny4/5/9/10</b> / 8-bit Microcontroller with 512/1024 Bytes In-System Programmable Flash
footprint UDFN-8
pins: 1 PB1, 4 GND (power), 5 PB0, 6 /RST, 7 VCC (power), 8 PB2

## AVRISP-6
designator ISP?, comment <b>AVR ISP HEADER</b> / <br> / Standard 6 pin header for AVR programming
footprint AVRISP
pins: 1 MISO, 2 VCC (power), 3 SCK (out), 4 MOSI (out), 5 RST (out), 6 GND (power)

## AVRISP-BOX
designator ISP?, comment <b>AVR ISP HEADER</b> / <br> / Standard 6 pin header for AVR programming
footprint AVRISP-BOX
pins: 1 MISO, 2 VCC (power), 3 SCK (out), 4 MOSI (out), 5 RST (out), 6 GND (power)

## AXP083-SAG
designator IC?
footprint SOT23
pins: 1 GND (power), 2 /RESET (out), 3 VCC (power)

## BEAGLEBONE_OUTLINE
designator ?, comment Should match A3 pinout - but not completely tested
footprint BEAGLEBONE_SHIELD
pins: 1 GND (power), 2 GND (power), 3 GPIO1_6, 4 GPIO1_7, 5 GPIO1_2, 6 GPIO1_3, 7 TIMER4, 8 TIMER7, 9 TIMER5, 10 TIMER6, 11 GPIO1_13, 12 GPIO1_12, 13 EHRPWM2B, 14 GPIO0_26, 15 GPIO1_15, 16 GPIO1_14, 17 GPIO0_27, 18 GPIO2_1, 19 EHRPWM2A, 20 GPIO1_31, 21 GPIO1_30, 22 GPIO1_5, 23 GPIO1_4, 24 GPIO1_1, 25 GPIO1_0, 26 GPIO1_29, 27 GPIO2_22, 28 GPIO2_24, 29 GPIO2_23, 30 GPIO2_25, 31 UART5_CTSN, 32 UART5_RTSN, 33 UART4_RTSN, 34 UART3_RTSN, 35 UART4_CTSN, 36 UART3_CTSN, 37 UART5_TXD, 38 UART5_RXD, 39 GPIO2_12, 40 GPIO2_13, 41 GPIO2_10, 42 GPIO2_11, 43 GPIO2_8, 44 GPIO2_9, 45 GPIO2_6, 46 GPIO2_7, 47 GND (power), 48 GND (power), 49 VDD_3V3EXP (power), 50 VDD_3V3EXP (power), 51 VDD_5V (power), 52 VDD_5V (power), 53 SYS_5V (power), 54 SYS_5V, 55 PWR_BUT, 56 SYS_RESETN, 57 UART4_RXD, 58 GPIO1_28, 59 UART4_TXD, 60 EHRPWM1A, 61 GPIO1_16, 62 EHRPWM1B, 63 I2C1_SCL, 64 I2C1_SDA, 65 I2C2_SCL, 66 I2C2_SDA, 67 UART2_TXD, 68 UART2_RXD, 69 GPIO1_17, 70 UART1_TXD, 71 GPIO3_21, 72 UART1_RXD, 73 GPIO3_19, 74 SPI1_CS0, 75 SPI1_DO, 76 SPI1_DI, 77 SPI1_SCLK, 78 VDD_ADC, 79 AIN4, 80 GNDA_ADC, 81 AIN6, 82 AIN5, 83 AIN2, 84 AIN3, 85 AIN0 (power), 86 AIN1, 87 CLKOUT2, 88 GPIO0_7, 89 GND (power), 90 GND (power), 91 GND (power), 92 GND (power)

## C-US025-024X044
designator C?, comment <B>CAPACITOR</B>, American symbol
footprint C025-024X044
pins: 1, 2

## C-US025-025X050
designator C?, comment <B>CAPACITOR</B>, American symbol
footprint C025-025X050
pins: 1, 2

## C-US025-030X050
designator C?, comment <B>CAPACITOR</B>, American symbol
footprint C025-030X050
pins: 1, 2

## C-US025-040X050
designator C?, comment <B>CAPACITOR</B>, American symbol
footprint C025-040X050
pins: 1, 2

## C-US025-050X050
designator C?, comment <B>CAPACITOR</B>, American symbol
footprint C025-050X050
pins: 1, 2

## C-US025-060X050
designator C?, comment <B>CAPACITOR</B>, American symbol
footprint C025-060X050
pins: 1, 2

## C-US025_050-025X075
designator C?, comment <B>CAPACITOR</B>, American symbol
footprint C025_050-025X075
pins: 1, 2

## C-US025_050-035X075
designator C?, comment <B>CAPACITOR</B>, American symbol
footprint C025_050-035X075
pins: 1, 2

## C-US025_050-045X075
designator C?, comment <B>CAPACITOR</B>, American symbol
footprint C025_050-045X075
pins: 1, 2

## C-US025_050-055X075
designator C?, comment <B>CAPACITOR</B>, American symbol
footprint C025_050-055X075
pins: 1, 2

## C-US050-024X044
designator C?, comment <B>CAPACITOR</B>, American symbol
footprint C050-024X044
pins: 1, 2

## C-US050-025X075
designator C?, comment <B>CAPACITOR</B>, American symbol
footprint C050-025X075
pins: 1, 2

## C-US050-030X075
designator C?, comment <B>CAPACITOR</B>, American symbol
footprint C050-030X075
pins: 1, 2

## C-US050-035X075
designator C?, comment <B>CAPACITOR</B>, American symbol
footprint C050-035X075
pins: 1, 2

## C-US050-045X075
designator C?, comment <B>CAPACITOR</B>, American symbol
footprint C050-045X075
pins: 1, 2

## C-US050-050X075
designator C?, comment <B>CAPACITOR</B>, American symbol
footprint C050-050X075
pins: 1, 2

## C-US050-055X075
designator C?, comment <B>CAPACITOR</B>, American symbol
footprint C050-055X075
pins: 1, 2

## C-US050-075X075
designator C?, comment <B>CAPACITOR</B>, American symbol
footprint C050-075X075
pins: 1, 2

## C-US050H075X075
designator C?, comment <B>CAPACITOR</B>, American symbol
footprint C050H075X075
pins: 1, 2

## C-US075-032X103
designator C?, comment <B>CAPACITOR</B>, American symbol
footprint C075-032X103
pins: 1, 2

## C-US075-042X103
designator C?, comment <B>CAPACITOR</B>, American symbol
footprint C075-042X103
pins: 1, 2

## C-US075-052X106
designator C?, comment <B>CAPACITOR</B>, American symbol
footprint C075-052X106
pins: 1, 2

## C-US075-063X106
designator C?, comment <B>CAPACITOR</B>, American symbol
footprint C075-063X106
pins: 1, 2

## C-US102-043X133
designator C?, comment <B>CAPACITOR</B>, American symbol
footprint C102-043X133
pins: 1, 2

## C-US102-054X133
designator C?, comment <B>CAPACITOR</B>, American symbol
footprint C102-054X133
pins: 1, 2

## C-US102-064X133
designator C?, comment <B>CAPACITOR</B>, American symbol
footprint C102-064X133
pins: 1, 2

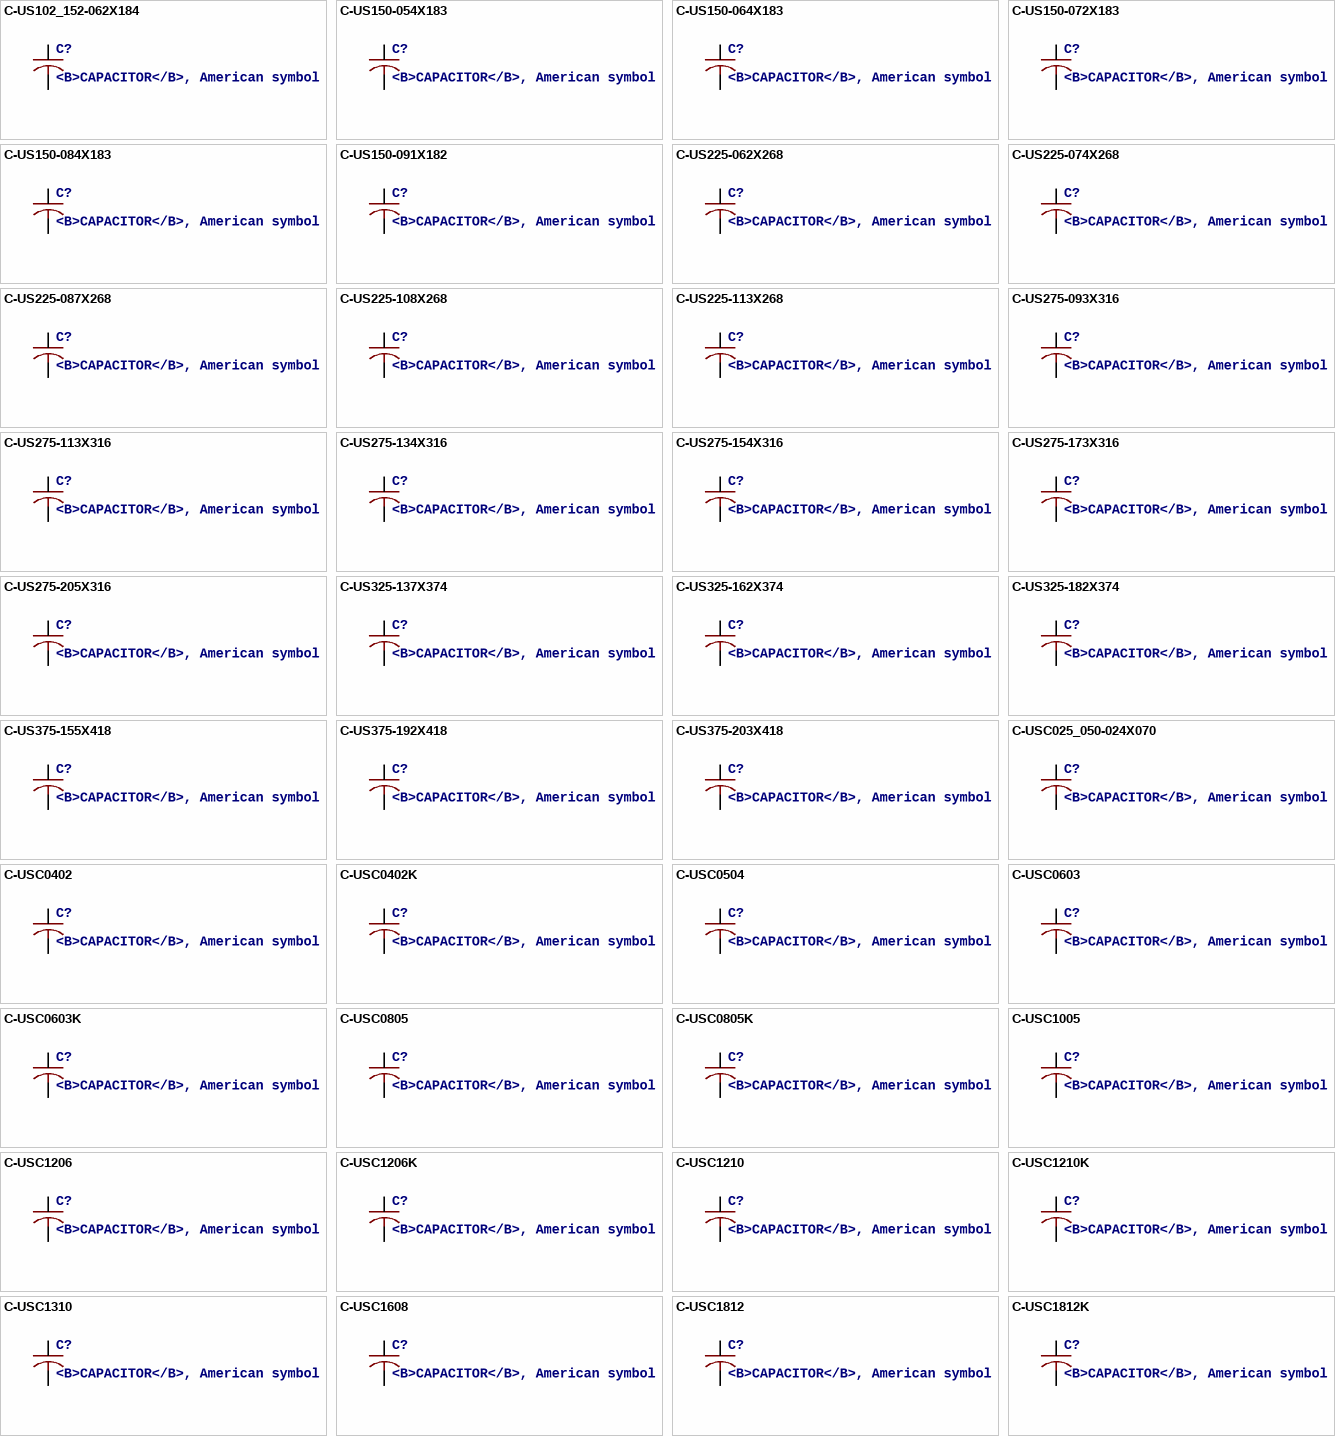
[diagram p11: symbols C-US102_152-062X184 to C-USC1812K]

## C-US102_152-062X184
designator C?, comment <B>CAPACITOR</B>, American symbol
footprint C102_152-062X184
pins: 1, 2

## C-US150-054X183
designator C?, comment <B>CAPACITOR</B>, American symbol
footprint C150-054X183
pins: 1, 2

## C-US150-064X183
designator C?, comment <B>CAPACITOR</B>, American symbol
footprint C150-064X183
pins: 1, 2

## C-US150-072X183
designator C?, comment <B>CAPACITOR</B>, American symbol
footprint C150-072X183
pins: 1, 2

## C-US150-084X183
designator C?, comment <B>CAPACITOR</B>, American symbol
footprint C150-084X183
pins: 1, 2

## C-US150-091X182
designator C?, comment <B>CAPACITOR</B>, American symbol
footprint C150-091X182
pins: 1, 2

## C-US225-062X268
designator C?, comment <B>CAPACITOR</B>, American symbol
footprint C225-062X268
pins: 1, 2

## C-US225-074X268
designator C?, comment <B>CAPACITOR</B>, American symbol
footprint C225-074X268
pins: 1, 2

## C-US225-087X268
designator C?, comment <B>CAPACITOR</B>, American symbol
footprint C225-087X268
pins: 1, 2

## C-US225-108X268
designator C?, comment <B>CAPACITOR</B>, American symbol
footprint C225-108X268
pins: 1, 2

## C-US225-113X268
designator C?, comment <B>CAPACITOR</B>, American symbol
footprint C225-113X268
pins: 1, 2

## C-US275-093X316
designator C?, comment <B>CAPACITOR</B>, American symbol
footprint C275-093X316
pins: 1, 2

## C-US275-113X316
designator C?, comment <B>CAPACITOR</B>, American symbol
footprint C275-113X316
pins: 1, 2

## C-US275-134X316
designator C?, comment <B>CAPACITOR</B>, American symbol
footprint C275-134X316
pins: 1, 2

## C-US275-154X316
designator C?, comment <B>CAPACITOR</B>, American symbol
footprint C275-154X316
pins: 1, 2

## C-US275-173X316
designator C?, comment <B>CAPACITOR</B>, American symbol
footprint C275-173X316
pins: 1, 2

## C-US275-205X316
designator C?, comment <B>CAPACITOR</B>, American symbol
footprint C275-205X316
pins: 1, 2

## C-US325-137X374
designator C?, comment <B>CAPACITOR</B>, American symbol
footprint C325-137X374
pins: 1, 2

## C-US325-162X374
designator C?, comment <B>CAPACITOR</B>, American symbol
footprint C325-162X374
pins: 1, 2

## C-US325-182X374
designator C?, comment <B>CAPACITOR</B>, American symbol
footprint C325-182X374
pins: 1, 2

## C-US375-155X418
designator C?, comment <B>CAPACITOR</B>, American symbol
footprint C375-155X418
pins: 1, 2

## C-US375-192X418
designator C?, comment <B>CAPACITOR</B>, American symbol
footprint C375-192X418
pins: 1, 2

## C-US375-203X418
designator C?, comment <B>CAPACITOR</B>, American symbol
footprint C375-203X418
pins: 1, 2

## C-USC025_050-024X070
designator C?, comment <B>CAPACITOR</B>, American symbol
footprint C025_050-024X070
pins: 1, 2

## C-USC0402
designator C?, comment <B>CAPACITOR</B>, American symbol
footprint C0402
pins: 1, 2

## C-USC0402K
designator C?, comment <B>CAPACITOR</B>, American symbol
footprint C0402K
pins: 1, 2

## C-USC0504
designator C?, comment <B>CAPACITOR</B>, American symbol
footprint C0504
pins: 1, 2

## C-USC0603
designator C?, comment <B>CAPACITOR</B>, American symbol
footprint C0603
pins: 1, 2

## C-USC0603K
designator C?, comment <B>CAPACITOR</B>, American symbol
footprint C0603K
pins: 1, 2

## C-USC0805
designator C?, comment <B>CAPACITOR</B>, American symbol
footprint C0805
pins: 1, 2

## C-USC0805K
designator C?, comment <B>CAPACITOR</B>, American symbol
footprint C0805K
pins: 1, 2

## C-USC1005
designator C?, comment <B>CAPACITOR</B>, American symbol
footprint C1005
pins: 1, 2

## C-USC1206
designator C?, comment <B>CAPACITOR</B>, American symbol
footprint C1206
pins: 1, 2

## C-USC1206K
designator C?, comment <B>CAPACITOR</B>, American symbol
footprint C1206K
pins: 1, 2

## C-USC1210
designator C?, comment <B>CAPACITOR</B>, American symbol
footprint C1210
pins: 1, 2

## C-USC1210K
designator C?, comment <B>CAPACITOR</B>, American symbol
footprint C1210K
pins: 1, 2

## C-USC1310
designator C?, comment <B>CAPACITOR</B>, American symbol
footprint C1310
pins: 1, 2

## C-USC1608
designator C?, comment <B>CAPACITOR</B>, American symbol
footprint C1608
pins: 1, 2

## C-USC1812
designator C?, comment <B>CAPACITOR</B>, American symbol
footprint C1812
pins: 1, 2

## C-USC1812K
designator C?, comment <B>CAPACITOR</B>, American symbol
footprint C1812K
pins: 1, 2

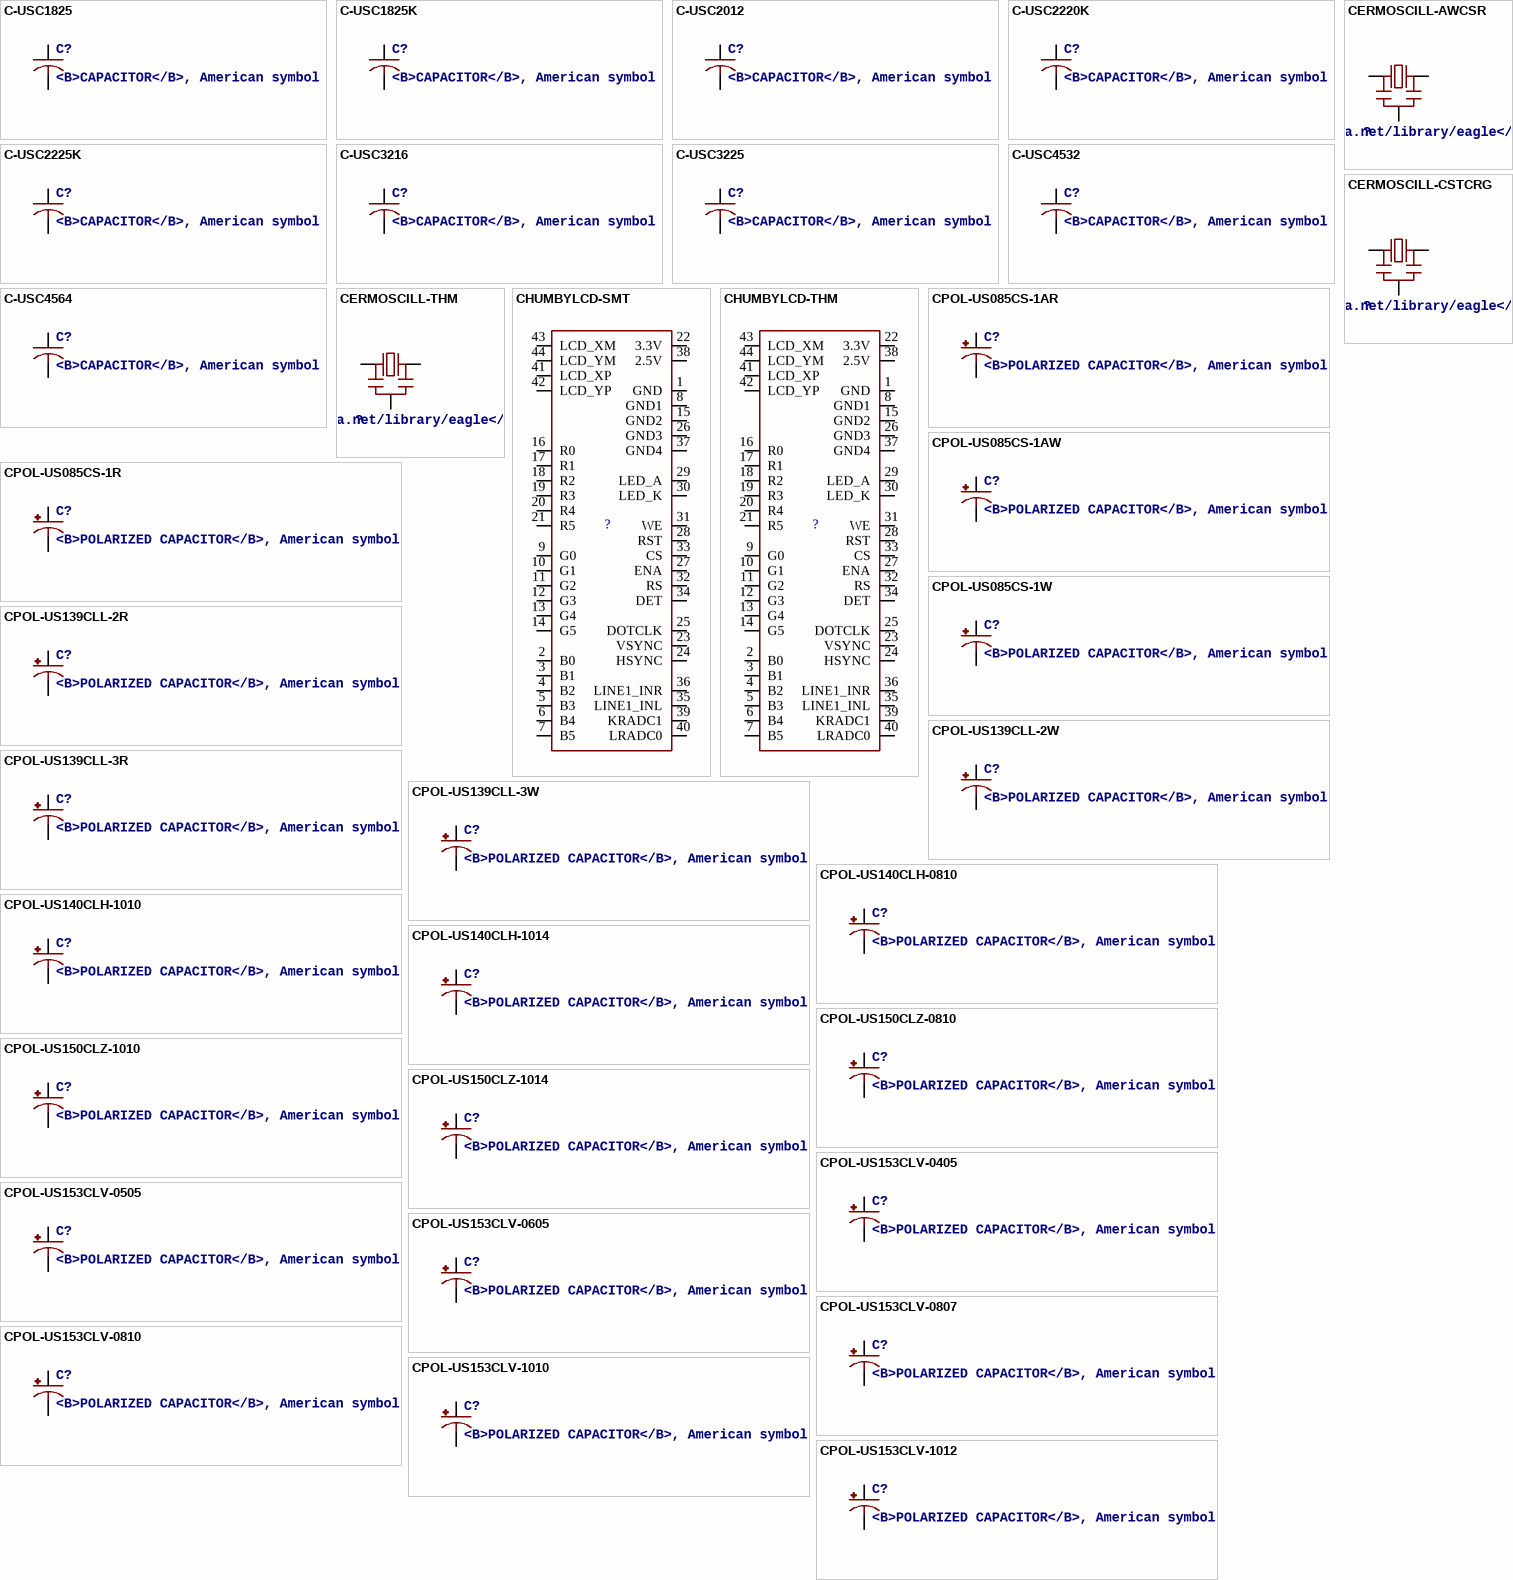
[diagram p12: symbols C-USC1825 to CPOL-US153CLV-1012]

## C-USC1825
designator C?, comment <B>CAPACITOR</B>, American symbol
footprint C1825
pins: 1, 2

## C-USC1825K
designator C?, comment <B>CAPACITOR</B>, American symbol
footprint C1825K
pins: 1, 2

## C-USC2012
designator C?, comment <B>CAPACITOR</B>, American symbol
footprint C2012
pins: 1, 2

## C-USC2220K
designator C?, comment <B>CAPACITOR</B>, American symbol
footprint C2220K
pins: 1, 2

## C-USC2225K
designator C?, comment <B>CAPACITOR</B>, American symbol
footprint C2225K
pins: 1, 2

## C-USC3216
designator C?, comment <B>CAPACITOR</B>, American symbol
footprint C3216
pins: 1, 2

## C-USC3225
designator C?, comment <B>CAPACITOR</B>, American symbol
footprint C3225
pins: 1, 2

## C-USC4532
designator C?, comment <B>CAPACITOR</B>, American symbol
footprint C4532
pins: 1, 2

## C-USC4564
designator C?, comment <B>CAPACITOR</B>, American symbol
footprint C4564
pins: 1, 2

## CERMOSCILL-AWCSR
designator ?, comment Ceramic oscillator with built in capacitors such as ZTT-12MHz / <p>http://www.ladyada.net/library/eagle</p>
footprint AWCSR
pins: 1 IN, 2 GND, 3 OUT

## CERMOSCILL-CSTCRG
designator ?, comment Ceramic oscillator with built in capacitors such as ZTT-12MHz / <p>http://www.ladyada.net/library/eagle</p>
footprint CSTCR-G
pins: 1 IN, 2 GND, 3 OUT

## CERMOSCILL-THM
designator ?, comment Ceramic oscillator with built in capacitors such as ZTT-12MHz / <p>http://www.ladyada.net/library/eagle</p>
footprint CERM_OSC
pins: P$1 IN, P$2 GND, P$3 OUT

## CHUMBYLCD-SMT
designator ?
footprint 2X22-SMT
pins: 1 GND, 2 B0, 3 B1, 4 B2, 5 B3, 6 B4, 7 B5, 8 GND1, 9 G0, 10 G1, 11 G2, 12 G3, 13 G4, 14 G5, 15 GND2, 16 R0, 17 R1, 18 R2, 19 R3, 20 R4, 21 R5, 22 3.3V, 23 VSYNC, 24 HSYNC, 25 DOTCLK, 26 GND3, 27 ENA, 28 RST, 29 LED_A, 30 LED_K, 31 WE, 32 RS, 33 CS, 34 DET, 35 LINE1_INL, 36 LINE1_INR, 37 GND4, 38 2.5V, 39 KRADC1, 40 LRADC0, 41 LCD_XP, 42 LCD_YP, 43 LCD_XM, 44 LCD_YM

## CHUMBYLCD-THM
designator ?
footprint 2X22
pins: 1 GND, 2 B0, 3 B1, 4 B2, 5 B3, 6 B4, 7 B5, 8 GND1, 9 G0, 10 G1, 11 G2, 12 G3, 13 G4, 14 G5, 15 GND2, 16 R0, 17 R1, 18 R2, 19 R3, 20 R4, 21 R5, 22 3.3V, 23 VSYNC, 24 HSYNC, 25 DOTCLK, 26 GND3, 27 ENA, 28 RST, 29 LED_A, 30 LED_K, 31 WE, 32 RS, 33 CS, 34 DET, 35 LINE1_INL, 36 LINE1_INR, 37 GND4, 38 2.5V, 39 KRADC1, 40 LRADC0, 41 LCD_XP, 42 LCD_YP, 43 LCD_XM, 44 LCD_YM

## CPOL-US085CS-1AR
designator C?, comment <B>POLARIZED CAPACITOR</B>, American symbol
footprint 085CS_1AR
pins: +, -

## CPOL-US085CS-1AW
designator C?, comment <B>POLARIZED CAPACITOR</B>, American symbol
footprint 085CS_1AW
pins: +, -

## CPOL-US085CS-1R
designator C?, comment <B>POLARIZED CAPACITOR</B>, American symbol
footprint 085CS_1R
pins: +, -

## CPOL-US085CS-1W
designator C?, comment <B>POLARIZED CAPACITOR</B>, American symbol
footprint 085CS_1W
pins: +, -

## CPOL-US139CLL-2R
designator C?, comment <B>POLARIZED CAPACITOR</B>, American symbol
footprint 139CLL-2R
pins: +, -

## CPOL-US139CLL-2W
designator C?, comment <B>POLARIZED CAPACITOR</B>, American symbol
footprint 139CLL-2W
pins: +, -

## CPOL-US139CLL-3R
designator C?, comment <B>POLARIZED CAPACITOR</B>, American symbol
footprint 139CLL-3R
pins: +, -

## CPOL-US139CLL-3W
designator C?, comment <B>POLARIZED CAPACITOR</B>, American symbol
footprint 139CLL-3W
pins: +, -

## CPOL-US140CLH-0810
designator C?, comment <B>POLARIZED CAPACITOR</B>, American symbol
footprint 140CLH-0810
pins: +, -

## CPOL-US140CLH-1010
designator C?, comment <B>POLARIZED CAPACITOR</B>, American symbol
footprint 140CLH-1010
pins: +, -

## CPOL-US140CLH-1014
designator C?, comment <B>POLARIZED CAPACITOR</B>, American symbol
footprint 140CLH-1014
pins: +, -

## CPOL-US150CLZ-0810
designator C?, comment <B>POLARIZED CAPACITOR</B>, American symbol
footprint 150CLZ-0810
pins: +, -

## CPOL-US150CLZ-1010
designator C?, comment <B>POLARIZED CAPACITOR</B>, American symbol
footprint 150CLZ-1010
pins: +, -

## CPOL-US150CLZ-1014
designator C?, comment <B>POLARIZED CAPACITOR</B>, American symbol
footprint 150CLZ-1014
pins: +, -

## CPOL-US153CLV-0405
designator C?, comment <B>POLARIZED CAPACITOR</B>, American symbol
footprint 153CLV-0405
pins: +, -

## CPOL-US153CLV-0505
designator C?, comment <B>POLARIZED CAPACITOR</B>, American symbol
footprint 153CLV-0505
pins: +, -

## CPOL-US153CLV-0605
designator C?, comment <B>POLARIZED CAPACITOR</B>, American symbol
footprint 153CLV-0605
pins: +, -

## CPOL-US153CLV-0807
designator C?, comment <B>POLARIZED CAPACITOR</B>, American symbol
footprint 153CLV-0807
pins: +, -

## CPOL-US153CLV-0810
designator C?, comment <B>POLARIZED CAPACITOR</B>, American symbol
footprint 153CLV-0810
pins: +, -

## CPOL-US153CLV-1010
designator C?, comment <B>POLARIZED CAPACITOR</B>, American symbol
footprint 153CLV-1010
pins: +, -

## CPOL-US153CLV-1012
designator C?, comment <B>POLARIZED CAPACITOR</B>, American symbol
footprint 153CLV-1012
pins: +, -

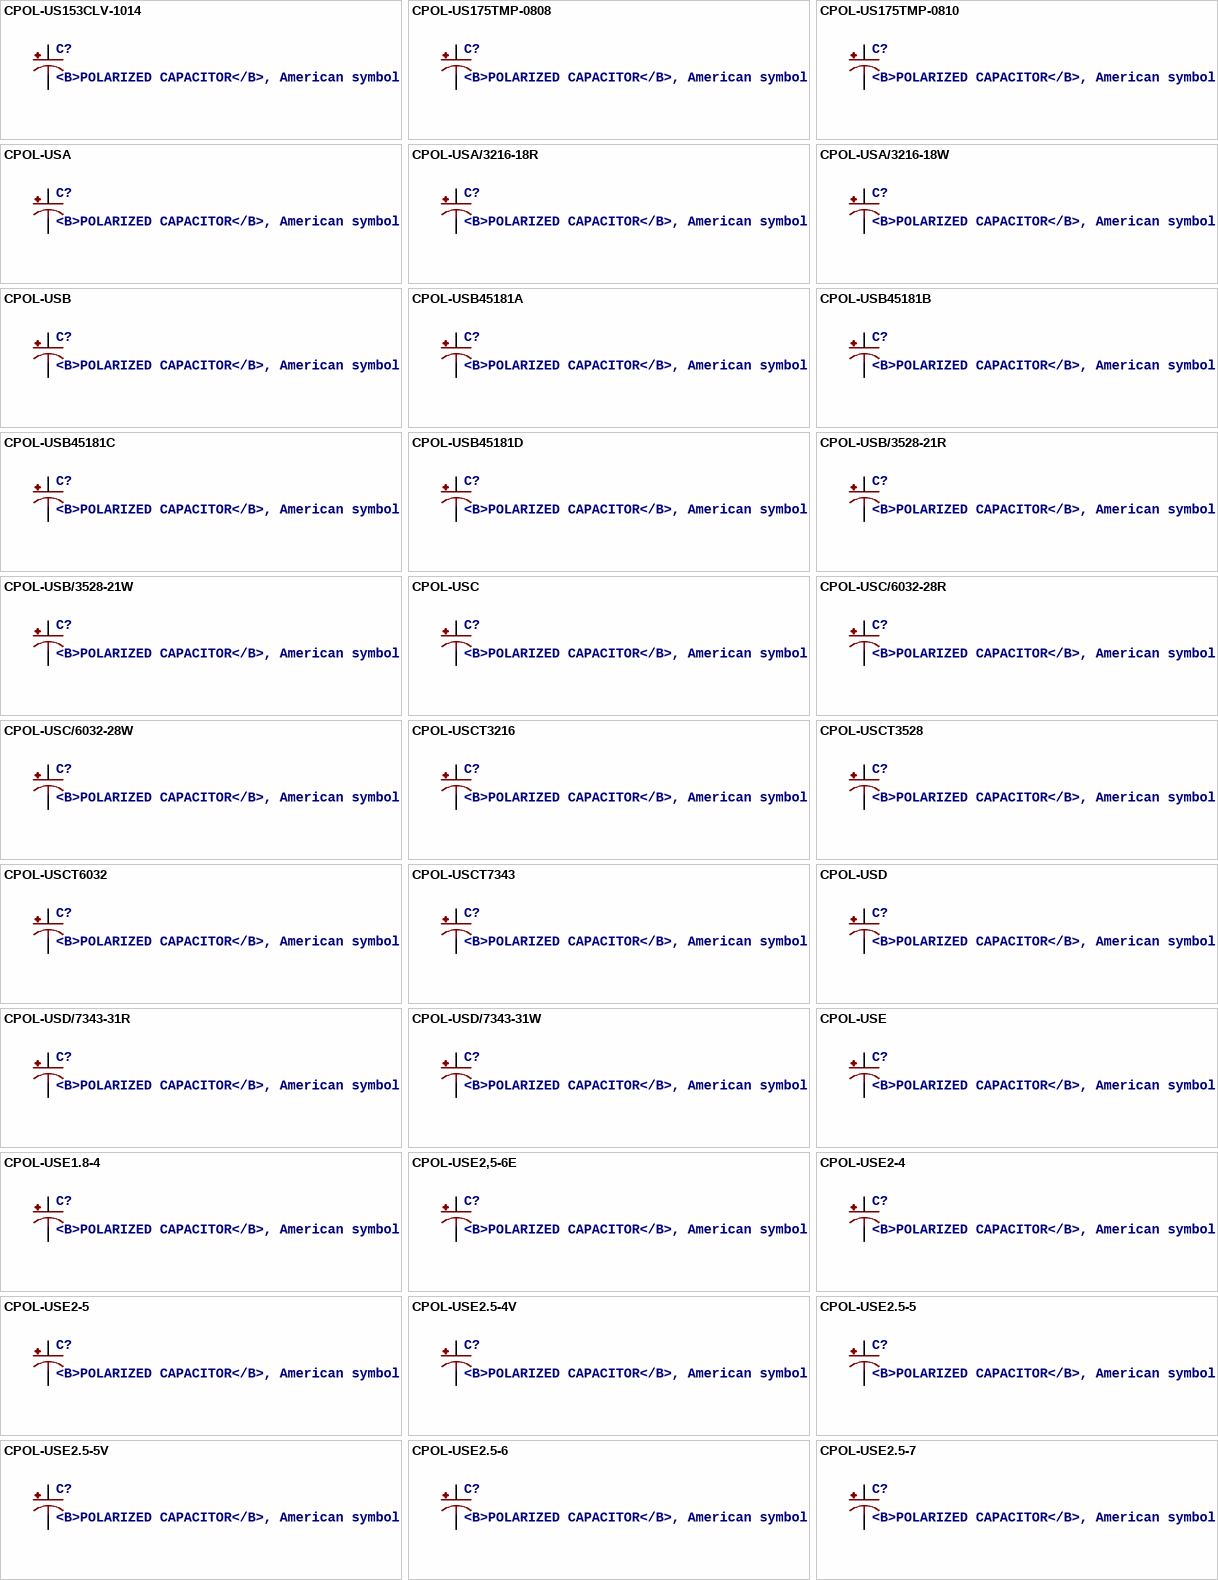
[diagram p13: symbols CPOL-US153CLV-1014 to CPOL-USE2.5-7]

## CPOL-US153CLV-1014
designator C?, comment <B>POLARIZED CAPACITOR</B>, American symbol
footprint 153CLV-1014
pins: +, -

## CPOL-US175TMP-0808
designator C?, comment <B>POLARIZED CAPACITOR</B>, American symbol
footprint 175TMP-0808
pins: +, -

## CPOL-US175TMP-0810
designator C?, comment <B>POLARIZED CAPACITOR</B>, American symbol
footprint 175TMP-0810
pins: +, -

## CPOL-USA
designator C?, comment <B>POLARIZED CAPACITOR</B>, American symbol
footprint PANASONIC_A
pins: +, -

## CPOL-USA/3216-18R
designator C?, comment <B>POLARIZED CAPACITOR</B>, American symbol
footprint A/3216-18R
pins: +, -

## CPOL-USA/3216-18W
designator C?, comment <B>POLARIZED CAPACITOR</B>, American symbol
footprint A/3216-18W
pins: +, -

## CPOL-USB
designator C?, comment <B>POLARIZED CAPACITOR</B>, American symbol
footprint PANASONIC_B
pins: +, -

## CPOL-USB45181A
designator C?, comment <B>POLARIZED CAPACITOR</B>, American symbol
footprint B45181A
pins: +, -

## CPOL-USB45181B
designator C?, comment <B>POLARIZED CAPACITOR</B>, American symbol
footprint B45181B
pins: +, -

## CPOL-USB45181C
designator C?, comment <B>POLARIZED CAPACITOR</B>, American symbol
footprint B45181C
pins: +, -

## CPOL-USB45181D
designator C?, comment <B>POLARIZED CAPACITOR</B>, American symbol
footprint B45181D
pins: +, -

## CPOL-USB/3528-21R
designator C?, comment <B>POLARIZED CAPACITOR</B>, American symbol
footprint B/3528-21R
pins: +, -

## CPOL-USB/3528-21W
designator C?, comment <B>POLARIZED CAPACITOR</B>, American symbol
footprint B/3528-21W
pins: +, -

## CPOL-USC
designator C?, comment <B>POLARIZED CAPACITOR</B>, American symbol
footprint PANASONIC_C
pins: +, -

## CPOL-USC/6032-28R
designator C?, comment <B>POLARIZED CAPACITOR</B>, American symbol
footprint C/6032-28R
pins: +, -

## CPOL-USC/6032-28W
designator C?, comment <B>POLARIZED CAPACITOR</B>, American symbol
footprint C/6032-28W
pins: +, -

## CPOL-USCT3216
designator C?, comment <B>POLARIZED CAPACITOR</B>, American symbol
footprint CT3216
pins: +, -

## CPOL-USCT3528
designator C?, comment <B>POLARIZED CAPACITOR</B>, American symbol
footprint CT3528
pins: +, -

## CPOL-USCT6032
designator C?, comment <B>POLARIZED CAPACITOR</B>, American symbol
footprint CT6032
pins: +, -

## CPOL-USCT7343
designator C?, comment <B>POLARIZED CAPACITOR</B>, American symbol
footprint CT7343
pins: +, -

## CPOL-USD
designator C?, comment <B>POLARIZED CAPACITOR</B>, American symbol
footprint PANASONIC_D
pins: +, -

## CPOL-USD/7343-31R
designator C?, comment <B>POLARIZED CAPACITOR</B>, American symbol
footprint D/7343-31R
pins: +, -

## CPOL-USD/7343-31W
designator C?, comment <B>POLARIZED CAPACITOR</B>, American symbol
footprint D/7343-31W
pins: +, -

## CPOL-USE
designator C?, comment <B>POLARIZED CAPACITOR</B>, American symbol
footprint PANASONIC_E
pins: +, -

## CPOL-USE1.8-4
designator C?, comment <B>POLARIZED CAPACITOR</B>, American symbol
footprint E1,8-4
pins: +, -

## CPOL-USE2,5-6E
designator C?, comment <B>POLARIZED CAPACITOR</B>, American symbol
footprint E2,5-6E
pins: +, -

## CPOL-USE2-4
designator C?, comment <B>POLARIZED CAPACITOR</B>, American symbol
footprint E2-4
pins: +, -

## CPOL-USE2-5
designator C?, comment <B>POLARIZED CAPACITOR</B>, American symbol
footprint E2-5
pins: +, -

## CPOL-USE2.5-4V
designator C?, comment <B>POLARIZED CAPACITOR</B>, American symbol
footprint E2,5RE
pins: +, -

## CPOL-USE2.5-5
designator C?, comment <B>POLARIZED CAPACITOR</B>, American symbol
footprint E2,5-5
pins: +, -

## CPOL-USE2.5-5V
designator C?, comment <B>POLARIZED CAPACITOR</B>, American symbol
footprint E2,5-4R
pins: +, -

## CPOL-USE2.5-6
designator C?, comment <B>POLARIZED CAPACITOR</B>, American symbol
footprint E2,5-6
pins: +, -

## CPOL-USE2.5-7
designator C?, comment <B>POLARIZED CAPACITOR</B>, American symbol
footprint E2,5-7
pins: +, -

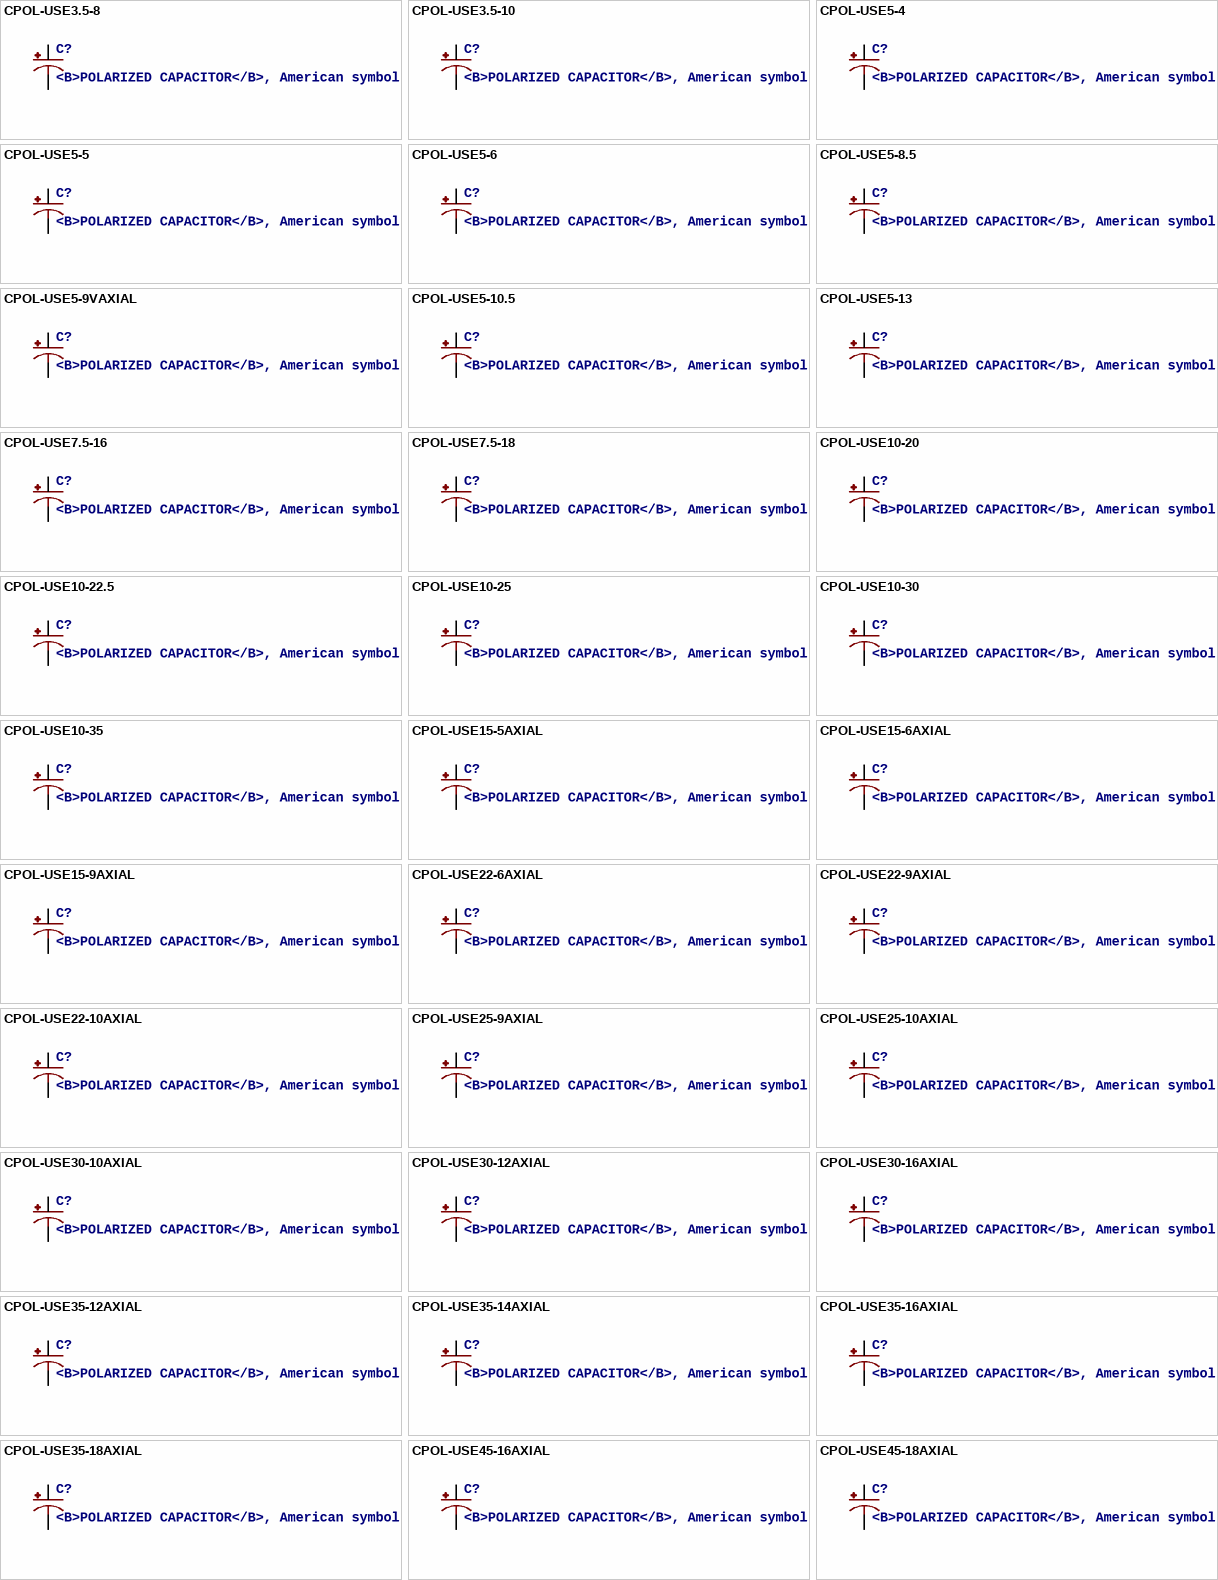
[diagram p14: symbols CPOL-USE3.5-8 to CPOL-USE45-18AXIAL]

## CPOL-USE3.5-8
designator C?, comment <B>POLARIZED CAPACITOR</B>, American symbol
footprint E3,5-8
pins: +, -

## CPOL-USE3.5-10
designator C?, comment <B>POLARIZED CAPACITOR</B>, American symbol
footprint E3,5-10
pins: +, -

## CPOL-USE5-4
designator C?, comment <B>POLARIZED CAPACITOR</B>, American symbol
footprint E5-4
pins: +, -

## CPOL-USE5-5
designator C?, comment <B>POLARIZED CAPACITOR</B>, American symbol
footprint E5-5
pins: +, -

## CPOL-USE5-6
designator C?, comment <B>POLARIZED CAPACITOR</B>, American symbol
footprint E5-6
pins: +, -

## CPOL-USE5-8.5
designator C?, comment <B>POLARIZED CAPACITOR</B>, American symbol
footprint E5-8,5
pins: +, -

## CPOL-USE5-9VAXIAL
designator C?, comment <B>POLARIZED CAPACITOR</B>, American symbol
footprint E5R
pins: +, -

## CPOL-USE5-10.5
designator C?, comment <B>POLARIZED CAPACITOR</B>, American symbol
footprint E5-10,5
pins: +, -

## CPOL-USE5-13
designator C?, comment <B>POLARIZED CAPACITOR</B>, American symbol
footprint E5-13
pins: +, -

## CPOL-USE7.5-16
designator C?, comment <B>POLARIZED CAPACITOR</B>, American symbol
footprint E7,5-16
pins: +, -

## CPOL-USE7.5-18
designator C?, comment <B>POLARIZED CAPACITOR</B>, American symbol
footprint E7,5-18
pins: +, -

## CPOL-USE10-20
designator C?, comment <B>POLARIZED CAPACITOR</B>, American symbol
footprint EB20D
pins: +, -

## CPOL-USE10-22.5
designator C?, comment <B>POLARIZED CAPACITOR</B>, American symbol
footprint EB22,5D
pins: +, -

## CPOL-USE10-25
designator C?, comment <B>POLARIZED CAPACITOR</B>, American symbol
footprint EB25D
pins: +, -

## CPOL-USE10-30
designator C?, comment <B>POLARIZED CAPACITOR</B>, American symbol
footprint EB30D
pins: +, -

## CPOL-USE10-35
designator C?, comment <B>POLARIZED CAPACITOR</B>, American symbol
footprint EB35D
pins: +, -

## CPOL-USE15-5AXIAL
designator C?, comment <B>POLARIZED CAPACITOR</B>, American symbol
footprint E15-5
pins: +, -

## CPOL-USE15-6AXIAL
designator C?, comment <B>POLARIZED CAPACITOR</B>, American symbol
footprint E15-6
pins: +, -

## CPOL-USE15-9AXIAL
designator C?, comment <B>POLARIZED CAPACITOR</B>, American symbol
footprint E15-9
pins: +, -

## CPOL-USE22-6AXIAL
designator C?, comment <B>POLARIZED CAPACITOR</B>, American symbol
footprint E22-6
pins: +, -

## CPOL-USE22-9AXIAL
designator C?, comment <B>POLARIZED CAPACITOR</B>, American symbol
footprint E22-9
pins: +, -

## CPOL-USE22-10AXIAL
designator C?, comment <B>POLARIZED CAPACITOR</B>, American symbol
footprint E22-10
pins: +, -

## CPOL-USE25-9AXIAL
designator C?, comment <B>POLARIZED CAPACITOR</B>, American symbol
footprint E25-9
pins: +, -

## CPOL-USE25-10AXIAL
designator C?, comment <B>POLARIZED CAPACITOR</B>, American symbol
footprint E25-10
pins: +, -

## CPOL-USE30-10AXIAL
designator C?, comment <B>POLARIZED CAPACITOR</B>, American symbol
footprint E30-10
pins: +, -

## CPOL-USE30-12AXIAL
designator C?, comment <B>POLARIZED CAPACITOR</B>, American symbol
footprint E30-12
pins: +, -

## CPOL-USE30-16AXIAL
designator C?, comment <B>POLARIZED CAPACITOR</B>, American symbol
footprint E30-16
pins: +, -

## CPOL-USE35-12AXIAL
designator C?, comment <B>POLARIZED CAPACITOR</B>, American symbol
footprint E35-12
pins: +, -

## CPOL-USE35-14AXIAL
designator C?, comment <B>POLARIZED CAPACITOR</B>, American symbol
footprint E35-14
pins: +, -

## CPOL-USE35-16AXIAL
designator C?, comment <B>POLARIZED CAPACITOR</B>, American symbol
footprint E35-16
pins: +, -

## CPOL-USE35-18AXIAL
designator C?, comment <B>POLARIZED CAPACITOR</B>, American symbol
footprint E35-18
pins: +, -

## CPOL-USE45-16AXIAL
designator C?, comment <B>POLARIZED CAPACITOR</B>, American symbol
footprint E45-16
pins: +, -

## CPOL-USE45-18AXIAL
designator C?, comment <B>POLARIZED CAPACITOR</B>, American symbol
footprint E45-18
pins: +, -

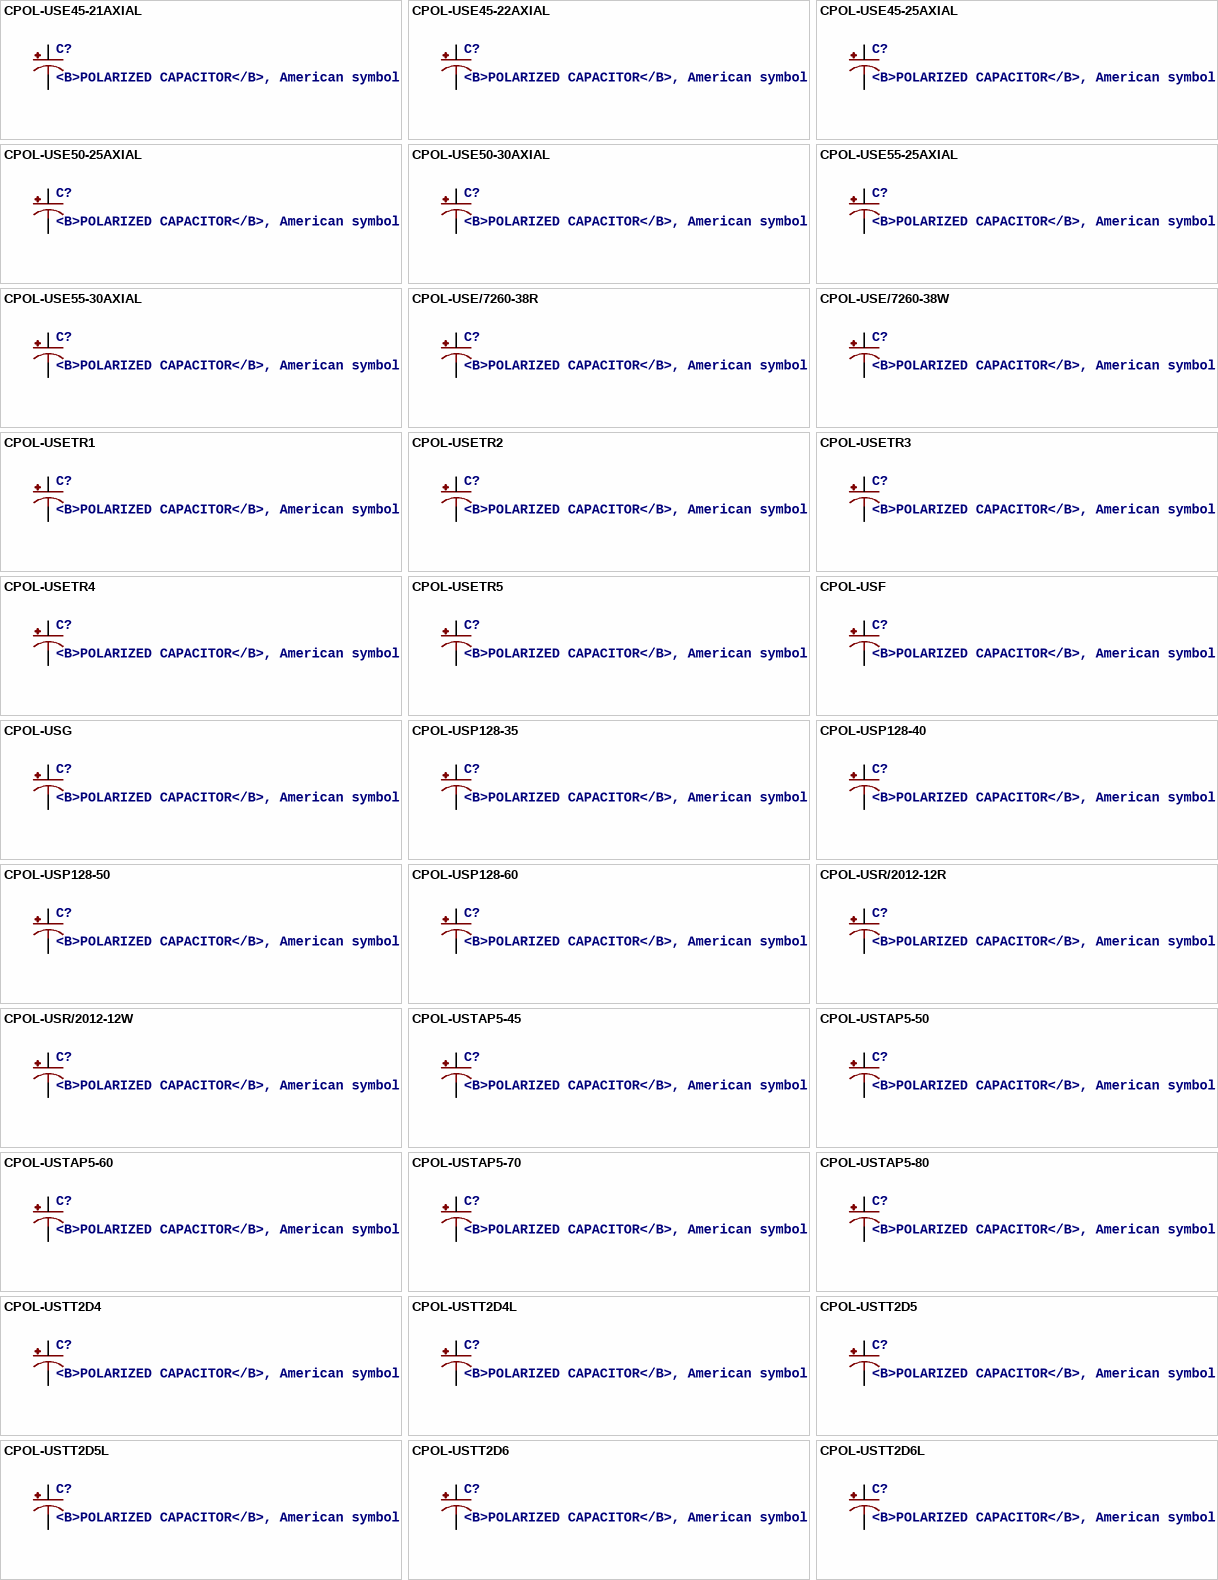
[diagram p15: symbols CPOL-USE45-21AXIAL to CPOL-USTT2D6L]

## CPOL-USE45-21AXIAL
designator C?, comment <B>POLARIZED CAPACITOR</B>, American symbol
footprint E45-21
pins: +, -

## CPOL-USE45-22AXIAL
designator C?, comment <B>POLARIZED CAPACITOR</B>, American symbol
footprint E45-22
pins: +, -

## CPOL-USE45-25AXIAL
designator C?, comment <B>POLARIZED CAPACITOR</B>, American symbol
footprint E45-25
pins: +, -

## CPOL-USE50-25AXIAL
designator C?, comment <B>POLARIZED CAPACITOR</B>, American symbol
footprint E50-25
pins: +, -

## CPOL-USE50-30AXIAL
designator C?, comment <B>POLARIZED CAPACITOR</B>, American symbol
footprint E50-30
pins: +, -

## CPOL-USE55-25AXIAL
designator C?, comment <B>POLARIZED CAPACITOR</B>, American symbol
footprint E55-25
pins: +, -

## CPOL-USE55-30AXIAL
designator C?, comment <B>POLARIZED CAPACITOR</B>, American symbol
footprint E55-30
pins: +, -

## CPOL-USE/7260-38R
designator C?, comment <B>POLARIZED CAPACITOR</B>, American symbol
footprint E/7260-38R
pins: +, -

## CPOL-USE/7260-38W
designator C?, comment <B>POLARIZED CAPACITOR</B>, American symbol
footprint E/7260-38W
pins: +, -

## CPOL-USETR1
designator C?, comment <B>POLARIZED CAPACITOR</B>, American symbol
footprint ETR1
pins: +, -

## CPOL-USETR2
designator C?, comment <B>POLARIZED CAPACITOR</B>, American symbol
footprint ETR2
pins: +, -

## CPOL-USETR3
designator C?, comment <B>POLARIZED CAPACITOR</B>, American symbol
footprint ETR3
pins: +, -

## CPOL-USETR4
designator C?, comment <B>POLARIZED CAPACITOR</B>, American symbol
footprint ETR4
pins: +, -

## CPOL-USETR5
designator C?, comment <B>POLARIZED CAPACITOR</B>, American symbol
footprint ETR5
pins: +, -

## CPOL-USF
designator C?, comment <B>POLARIZED CAPACITOR</B>, American symbol
footprint PANASONIC_F
pins: +, -

## CPOL-USG
designator C?, comment <B>POLARIZED CAPACITOR</B>, American symbol
footprint PANASONIC_G
pins: +, -

## CPOL-USP128-35
designator C?, comment <B>POLARIZED CAPACITOR</B>, American symbol
footprint P128-35
pins: +, -

## CPOL-USP128-40
designator C?, comment <B>POLARIZED CAPACITOR</B>, American symbol
footprint P128-40
pins: +, -

## CPOL-USP128-50
designator C?, comment <B>POLARIZED CAPACITOR</B>, American symbol
footprint P128-50
pins: +, -

## CPOL-USP128-60
designator C?, comment <B>POLARIZED CAPACITOR</B>, American symbol
footprint P128-60
pins: +, -

## CPOL-USR/2012-12R
designator C?, comment <B>POLARIZED CAPACITOR</B>, American symbol
footprint R/2012-12R
pins: +, -

## CPOL-USR/2012-12W
designator C?, comment <B>POLARIZED CAPACITOR</B>, American symbol
footprint R/2012-12W
pins: +, -

## CPOL-USTAP5-45
designator C?, comment <B>POLARIZED CAPACITOR</B>, American symbol
footprint TAP5-45
pins: +, -

## CPOL-USTAP5-50
designator C?, comment <B>POLARIZED CAPACITOR</B>, American symbol
footprint TAP5-50
pins: +, -

## CPOL-USTAP5-60
designator C?, comment <B>POLARIZED CAPACITOR</B>, American symbol
footprint TAP5-60
pins: +, -

## CPOL-USTAP5-70
designator C?, comment <B>POLARIZED CAPACITOR</B>, American symbol
footprint TAP5-70
pins: +, -

## CPOL-USTAP5-80
designator C?, comment <B>POLARIZED CAPACITOR</B>, American symbol
footprint TAP5-80
pins: +, -

## CPOL-USTT2D4
designator C?, comment <B>POLARIZED CAPACITOR</B>, American symbol
footprint TT2D4
pins: +, -

## CPOL-USTT2D4L
designator C?, comment <B>POLARIZED CAPACITOR</B>, American symbol
footprint TT2D4L
pins: +, -

## CPOL-USTT2D5
designator C?, comment <B>POLARIZED CAPACITOR</B>, American symbol
footprint TT2D5
pins: +, -

## CPOL-USTT2D5L
designator C?, comment <B>POLARIZED CAPACITOR</B>, American symbol
footprint TT2D5L
pins: +, -

## CPOL-USTT2D6
designator C?, comment <B>POLARIZED CAPACITOR</B>, American symbol
footprint TT2D6
pins: +, -

## CPOL-USTT2D6L
designator C?, comment <B>POLARIZED CAPACITOR</B>, American symbol
footprint TT2D6L
pins: +, -

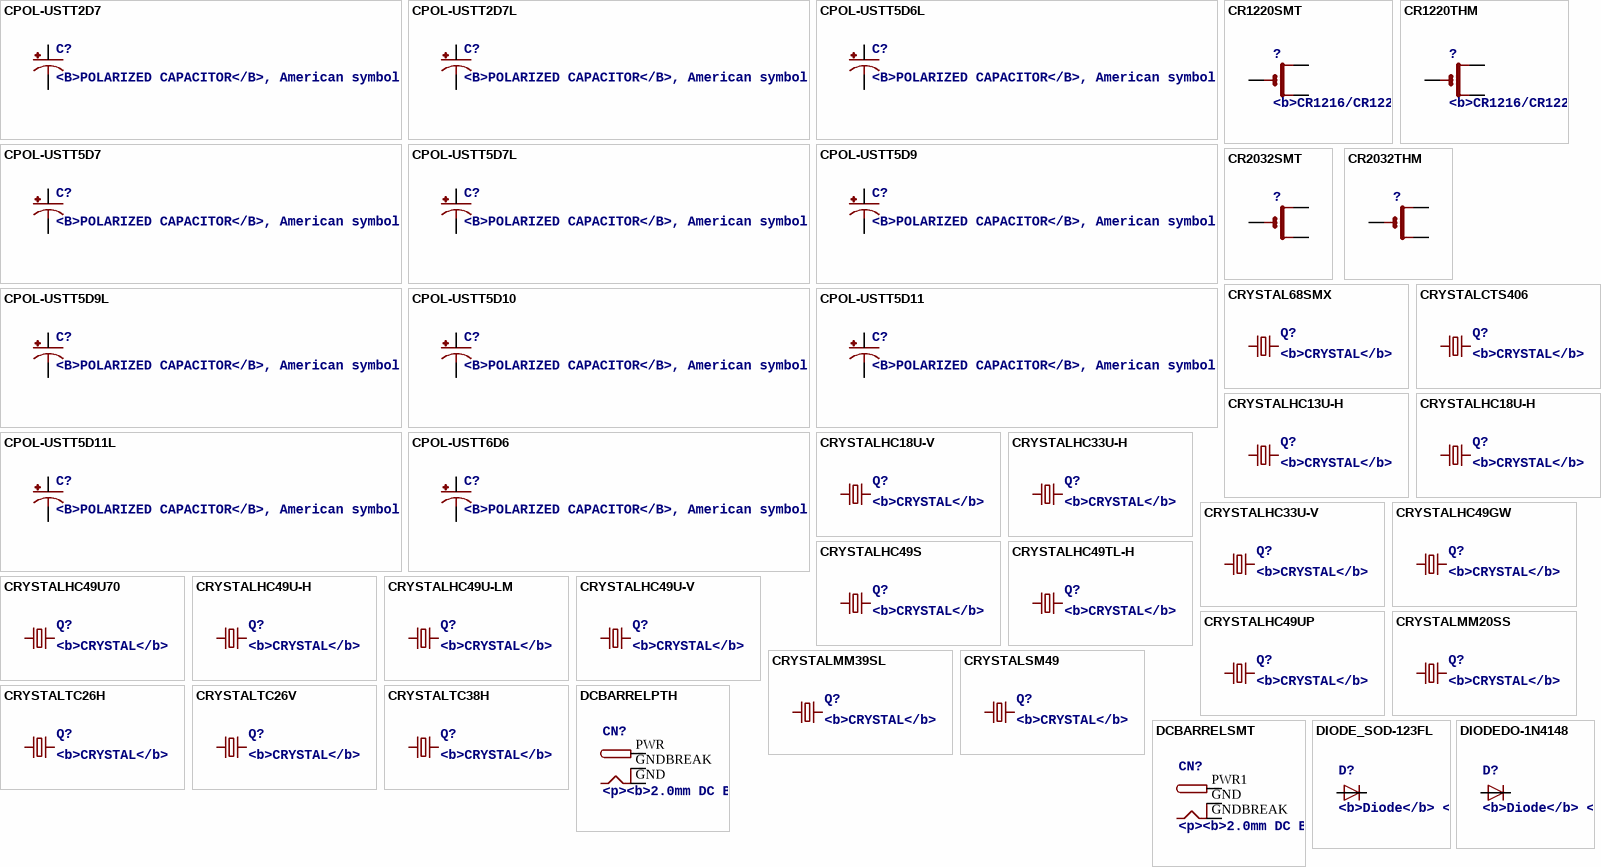
[diagram p16: symbols CPOL-USTT2D7 to DIODEDO-1N4148]

## CPOL-USTT2D7
designator C?, comment <B>POLARIZED CAPACITOR</B>, American symbol
footprint TT2D7
pins: +, -

## CPOL-USTT2D7L
designator C?, comment <B>POLARIZED CAPACITOR</B>, American symbol
footprint TT2D7L
pins: +, -

## CPOL-USTT5D6L
designator C?, comment <B>POLARIZED CAPACITOR</B>, American symbol
footprint TT5D6L
pins: +, -

## CPOL-USTT5D7
designator C?, comment <B>POLARIZED CAPACITOR</B>, American symbol
footprint TT5D7
pins: +, -

## CPOL-USTT5D7L
designator C?, comment <B>POLARIZED CAPACITOR</B>, American symbol
footprint TT5D7L
pins: +, -

## CPOL-USTT5D9
designator C?, comment <B>POLARIZED CAPACITOR</B>, American symbol
footprint TT5D9
pins: +, -

## CPOL-USTT5D9L
designator C?, comment <B>POLARIZED CAPACITOR</B>, American symbol
footprint TT5D9L
pins: +, -

## CPOL-USTT5D10
designator C?, comment <B>POLARIZED CAPACITOR</B>, American symbol
footprint TT5D10
pins: +, -